# Altium schematic symbol library FPGA_Xilinx_Virtex7.SchLib: 34 symbols (part 6 of 26)
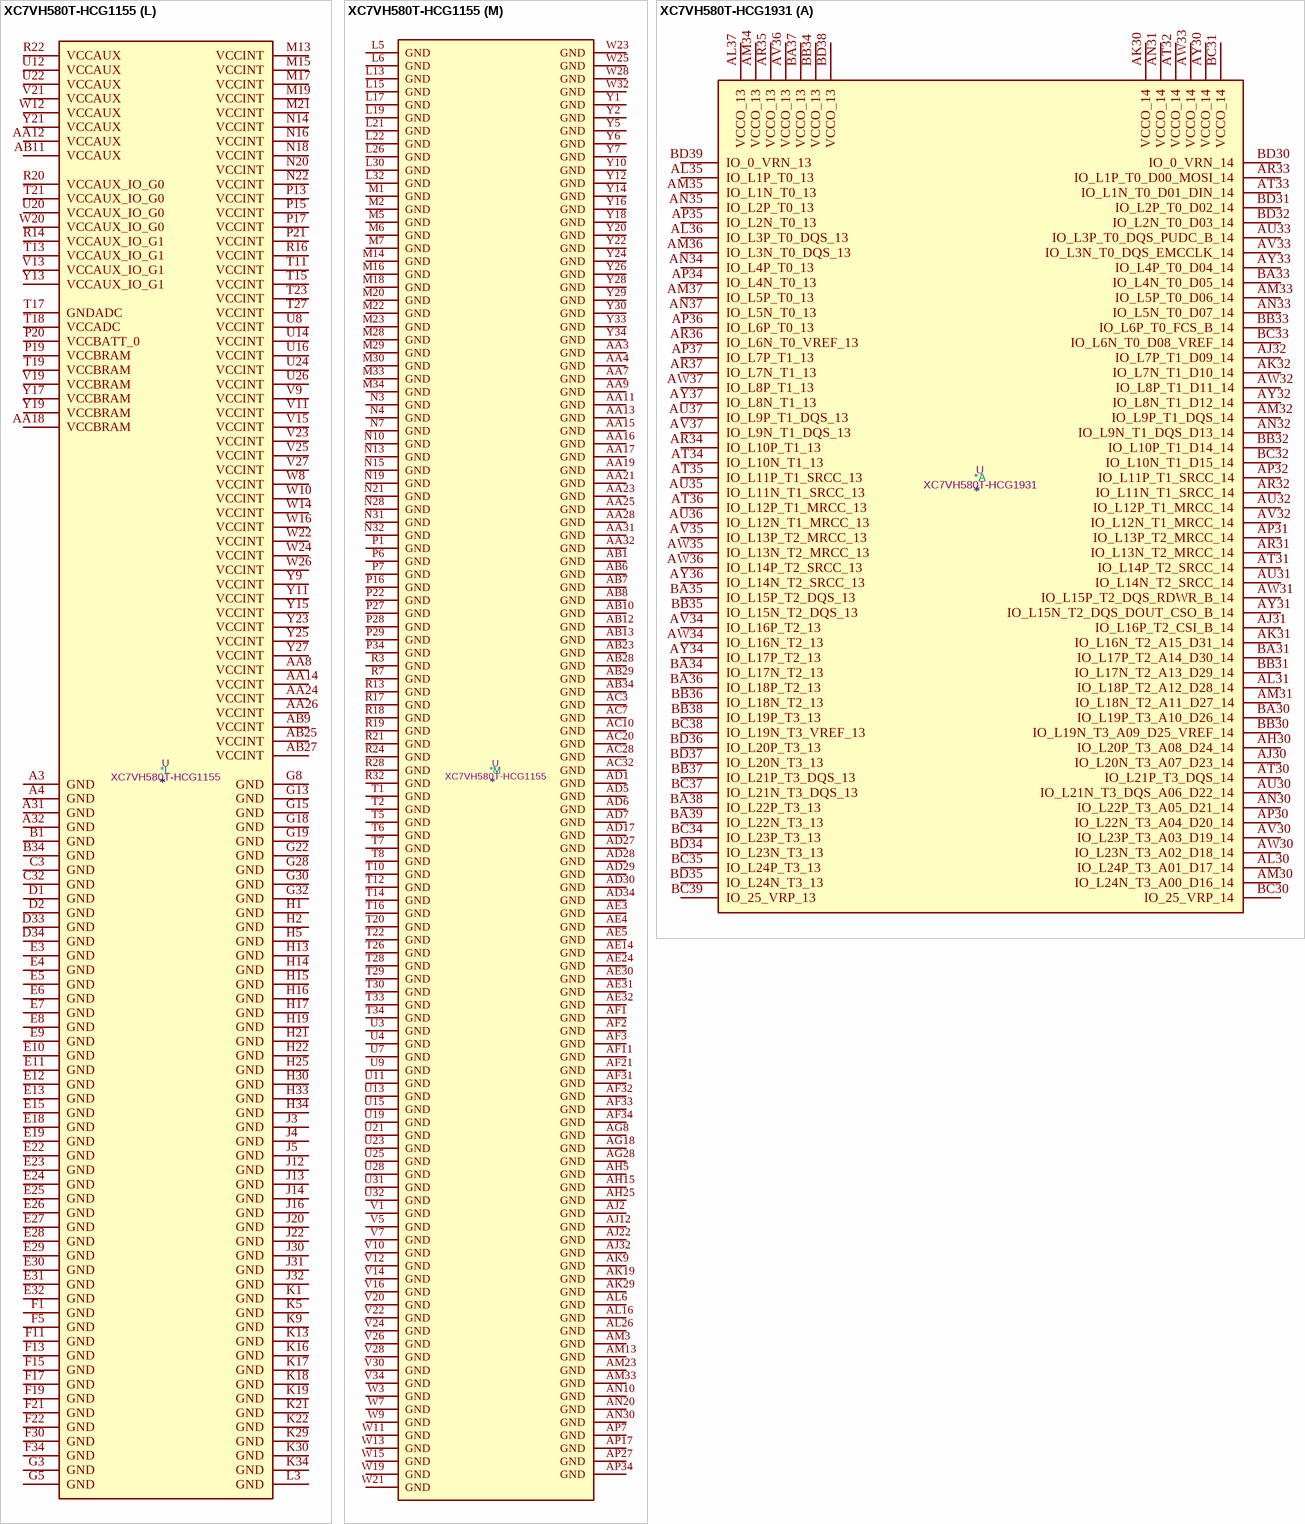
[diagram p177: symbols XC7VH580T-HCG1155 to XC7VH580T-HCG1931]

## XC7VH580T-HCG1155
designator *  value XC7VH580T-HCG1155  Reference: U
Virtex 7 HT 580 XC7VH580T-FLG1155; ki_keywords: FPGA; Description_: Virtex 7 HT 580 XC7VH580T-FLG1155
part A pins: AB24 IO_L5P_T0_13, AC23 IO_L1P_T0_13, AC24 IO_L5N_T0_13, AC25 VCCO_13, AC26 IO_L4P_T0_13, AC27 IO_L4N_T0_13, AD23 IO_L1N_T0_13, AD24 IO_L2P_T0_13, AD25 IO_L2N_T0_13, AD26 IO_L3P_T0_DQS_13, AE23 IO_L16P_T2_13, AE25 IO_L17P_T2_13, AE26 IO_L3N_T0_DQS_13, AE27 IO_L6P_T0_13, AE28 IO_L1P_T0_D00_MOSI_14, AE29 VCCO_14, AF23 IO_L16N_T2_13, AF24 IO_L15P_T2_DQS_13, AF25 IO_L17N_T2_13, AF26 VCCO_13, AF27 IO_L6N_T0_VREF_13, AF28 IO_L1N_T0_D01_DIN_14, AF29 IO_L3P_T0_DQS_PUDC_B_14, AF30 IO_L7P_T1_D09_14, AG23 VCCO_13, AG24 IO_L15N_T2_DQS_13, AG25 IO_L14P_T2_SRCC_13, AG26 IO_L14N_T2_SRCC_13, AG27 IO_L7P_T1_13, AG29 IO_L3N_T0_DQS_EMCCLK_14, AG30 IO_L7N_T1_D10_14, AG31 IO_L8P_T1_D11_14, AG32 IO_L8N_T1_D12_14, AG33 VCCO_14, AG34 IO_L10P_T1_D14_14, AH23 IO_L18P_T2_13, AH24 IO_L13P_T2_MRCC_13, AH26 IO_L9P_T1_DQS_13, AH27 IO_L7N_T1_13, AH28 IO_L4P_T0_D04_14, AH29 IO_L4N_T0_D05_14, AH30 VCCO_14, AH31 IO_L11P_T1_SRCC_14, AH32 IO_L9P_T1_DQS_14, AH33 IO_L9N_T1_DQS_D13_14, AH34 IO_L10N_T1_D15_14, AJ23 IO_L18N_T2_13, AJ24 IO_L13N_T2_MRCC_13, AJ25 IO_L11P_T1_SRCC_13, AJ26 IO_L9N_T1_DQS_13, AJ27 VCCO_13, AJ28 IO_L5P_T0_D06_14, AJ29 IO_L2P_T0_D02_14, AJ30 IO_L2N_T0_D03_14, AJ31 IO_L11N_T1_SRCC_14, AJ33 IO_L17P_T2_A14_D30_14, AJ34 IO_L17N_T2_A13_D29_14, AK23 IO_L20P_T3_13, AK24 VCCO_13, AK25 IO_L11N_T1_SRCC_13, AK26 IO_L8P_T1_13, AK27 IO_L8N_T1_13, AK28 IO_L5N_T0_D07_14, AK30 IO_L12P_T1_MRCC_14, AK31 IO_L12N_T1_MRCC_14, AK32 IO_L13P_T2_MRCC_14, AK33 IO_L14P_T2_SRCC_14, AK34 VCCO_14, AL22 IO_L24P_T3_13, AL23 IO_L20N_T3_13, AL24 IO_L12P_T1_MRCC_13, AL25 IO_L12N_T1_MRCC_13, AL27 IO_0_VRN_13, AL28 IO_L6P_T0_FCS_B_14, AL29 IO_L6N_T0_D08_VREF_14, AL30 IO_L21P_T3_DQS_14, AL31 VCCO_14, AL32 IO_L13N_T2_MRCC_14, AL33 IO_L14N_T2_SRCC_14, AL34 IO_L16P_T2_CSI_B_14, AM22 IO_L24N_T3_13, AM24 IO_L23P_T3_13, AM25 IO_L10P_T1_13, AM26 IO_L10N_T1_13, AM27 IO_L20P_T3_A08_D24_14, AM28 VCCO_14, AM29 IO_L19P_T3_A10_D26_14, AM30 IO_L21N_T3_DQS_A06_D22_14, AM31 IO_L23P_T3_A03_D19_14, AM32 IO_L15P_T2_DQS_RDWR_B_14, AM34 IO_L16N_T2_A15_D31_14, AN22 IO_25_VRP_13, AN23 IO_L21P_T3_DQS_13, AN24 IO_L23N_T3_13, AN25 VCCO_13, AN26 IO_L22P_T3_13, AN27 IO_L20N_T3_A07_D23_14, AN28 IO_L24P_T3_A01_D17_14, AN29 IO_L19N_T3_A09_D25_VREF_14, AN31 IO_L23N_T3_A02_D18_14, AN32 IO_L15N_T2_DQS_DOUT_CSO_B_14, AN33 IO_L18P_T2_A12_D28_14, AN34 IO_0_VRN_14, AP22 VCCO_13, AP23 IO_L21N_T3_DQS_13, AP24 IO_L19P_T3_13, AP25 IO_L19N_T3_VREF_13, AP26 IO_L22N_T3_13, AP28 IO_L24N_T3_A00_D16_14, AP29 IO_L22P_T3_A05_D21_14, AP30 IO_L22N_T3_A04_D20_14, AP31 IO_25_VRP_14, AP32 VCCO_14, AP33 IO_L18N_T2_A11_D27_14
part B pins: AA20 IO_L5P_T0_AD9P_15, AA22 VCCO_15, AB18 VCCO_15, AB19 IO_0_VRN_15, AB20 IO_L5N_T0_AD9N_15, AB21 IO_L20P_T3_A20_15, AB22 IO_L22P_T3_A17_15, AC18 IO_L1P_T0_AD0P_15, AC19 IO_L3P_T0_DQS_AD1P_15, AC21 IO_L20N_T3_A19_15, AC22 IO_L22N_T3_A16_15, AD18 IO_L1N_T0_AD0N_15, AD19 IO_L3N_T0_DQS_AD1N_15, AD20 IO_L16P_T2_A28_15, AD21 IO_L21P_T3_DQS_15, AD22 VCCO_15, AE18 IO_L4P_T0_15, AE19 VCCO_15, AE20 IO_L16N_T2_A27_15, AE21 IO_L21N_T3_DQS_A18_15, AE22 IO_L24P_T3_RS1_15, AF18 IO_L4N_T0_15, AF19 IO_L6P_T0_15, AF20 IO_L18P_T2_A24_15, AF22 IO_L24N_T3_RS0_15, AG19 IO_L6N_T0_VREF_15, AG20 IO_L18N_T2_A23_15, AG21 IO_25_VRP_15, AG22 IO_L23P_T3_FOE_B_15, AH18 IO_L2P_T0_AD8P_15, AH19 IO_L2N_T0_AD8N_15, AH20 VCCO_15, AH21 IO_L17P_T2_A26_15, AH22 IO_L23N_T3_FWE_B_15, AJ18 IO_L15P_T2_DQS_15, AJ19 IO_L15N_T2_DQS_ADV_B_15, AJ20 IO_L13P_T2_MRCC_15, AJ21 IO_L17N_T2_A25_15, AK18 IO_L7P_T1_AD2P_15, AK20 IO_L13N_T2_MRCC_15, AK21 IO_L19P_T3_A22_15, AK22 IO_L19N_T3_A21_VREF_15, AL18 IO_L7N_T1_AD2N_15, AL19 IO_L14P_T2_SRCC_15, AL20 IO_L14N_T2_SRCC_15, AL21 VCCO_15, AM18 VCCO_15, AM19 IO_L12P_T1_MRCC_15, AM20 IO_L12N_T1_MRCC_15, AM21 IO_L11P_T1_SRCC_15, AN18 IO_L10P_T1_AD11P_15, AN19 IO_L9P_T1_DQS_AD3P_15, AN21 IO_L11N_T1_SRCC_15, AP18 IO_L10N_T1_AD11N_15, AP19 IO_L9N_T1_DQS_AD3N_15, AP20 IO_L8P_T1_AD10P_15, AP21 IO_L8N_T1_AD10N_15, F23 IO_25_VRP_16, F24 IO_L8P_T1_16, F25 IO_L8N_T1_16, F26 VCCO_16, F27 IO_L19P_T3_16, F28 IO_L19N_T3_VREF_16, F29 VCCO_16, G23 VCCO_16, G24 IO_L9N_T1_DQS_16, G25 IO_L10P_T1_16, G26 IO_L10N_T1_16, G27 IO_L22N_T3_16, G29 IO_L23N_T3_16, H23 IO_L7P_T1_16, H24 IO_L9P_T1_DQS_16, H26 IO_L12N_T1_MRCC_16, H27 IO_L22P_T3_16, H28 IO_L21N_T3_DQS_16, H29 IO_L23P_T3_16, J23 IO_L6N_T0_VREF_16, J24 IO_L7N_T1_16, J25 IO_L11N_T1_SRCC_16, J26 IO_L12P_T1_MRCC_16, J27 VCCO_16, J28 IO_L21P_T3_DQS_16, J29 IO_L20N_T3_16, K23 IO_L6P_T0_16, K24 VCCO_16, K25 IO_L11P_T1_SRCC_16, K26 IO_L13P_T2_MRCC_16, K27 IO_L13N_T2_MRCC_16, K28 IO_L20P_T3_16, L23 IO_L2P_T0_16, L24 IO_L2N_T0_16, L25 IO_L14N_T2_SRCC_16, L27 IO_L17N_T2_16, L28 IO_L24P_T3_16, L29 IO_L24N_T3_16, M24 IO_0_VRN_16, M25 IO_L14P_T2_SRCC_16, M26 IO_L17P_T2_16, M27 IO_L18N_T2_16, N23 IO_L4N_T0_16, N24 IO_L3N_T0_DQS_16, N25 VCCO_16, N26 IO_L15N_T2_DQS_16, N27 IO_L18P_T2_16, P23 IO_L4P_T0_16, P24 IO_L3P_T0_DQS_16, P25 IO_L5N_T0_16, P26 IO_L15P_T2_DQS_16, R23 IO_L1P_T0_16, R25 IO_L5P_T0_16, R26 IO_L16P_T2_16, R27 IO_L16N_T2_16, T24 IO_L1N_T0_16, T25 VCCO_16
part C pins: AC8 IO_L4P_T0_33, AC9 IO_L2P_T0_33, AC11 IO_L1N_T0_33, AC12 IO_L1P_T0_33, AD8 IO_L4N_T0_33, AD9 IO_L2N_T0_33, AD10 IO_L3N_T0_DQS_33, AD11 IO_L3P_T0_DQS_33, AD12 VCCO_33, AE6 IO_L1P_T0_34, AE7 IO_L5P_T0_34, AE8 IO_L6P_T0_33, AE9 VCCO_33, AE10 IO_L5N_T0_33, AE11 IO_L5P_T0_33, AE12 IO_L16P_T2_33, AF4 IO_L7P_T1_34, AF5 IO_L1N_T0_34, AF6 VCCO_34, AF7 IO_L5N_T0_34, AF8 IO_L6N_T0_VREF_33, AF9 IO_L17P_T2_33, AF10 IO_L15P_T2_DQS_33, AF12 IO_L16N_T2_33, AG1 IO_L10P_T1_34, AG2 IO_L9P_T1_DQS_34, AG3 VCCO_34, AG4 IO_L7N_T1_34, AG5 IO_L2N_T0_34, AG6 IO_L2P_T0_34, AG7 IO_L4P_T0_34, AG9 IO_L17N_T2_33, AG10 IO_L15N_T2_DQS_33, AG11 IO_L13P_T2_MRCC_33, AG12 IO_L18P_T2_33, AH1 IO_L10N_T1_34, AH2 IO_L9N_T1_DQS_34, AH3 IO_L8N_T1_34, AH4 IO_L8P_T1_34, AH6 IO_L3P_T0_DQS_34, AH7 IO_L4N_T0_34, AH8 IO_L7N_T1_33, AH9 IO_L7P_T1_33, AH10 VCCO_33, AH11 IO_L13N_T2_MRCC_33, AH12 IO_L18N_T2_33, AJ1 IO_L17P_T2_34, AJ3 IO_L11N_T1_SRCC_34, AJ4 IO_L11P_T1_SRCC_34, AJ5 IO_L12P_T1_MRCC_34, AJ6 IO_L3N_T0_DQS_34, AJ7 VCCO_34, AJ8 IO_L9N_T1_DQS_33, AJ9 IO_L9P_T1_DQS_33, AJ10 IO_L14N_T2_SRCC_33, AJ11 IO_L14P_T2_SRCC_33, AK1 IO_L17N_T2_34, AK2 IO_L14P_T2_SRCC_34, AK3 IO_L13P_T2_MRCC_34, AK4 VCCO_34, AK5 IO_L12N_T1_MRCC_34, AK6 IO_L6N_T0_VREF_34, AK7 IO_L6P_T0_34, AK8 IO_L8P_T1_33, AK10 IO_L11N_T1_SRCC_33, AK11 IO_L11P_T1_SRCC_33, AK12 IO_L20P_T3_33, AL1 VCCO_34, AL2 IO_L14N_T2_SRCC_34, AL3 IO_L13N_T2_MRCC_34, AL4 IO_L23N_T3_34, AL5 IO_L23P_T3_34, AL7 IO_L20P_T3_34, AL8 IO_L8N_T1_33, AL9 IO_L12N_T1_MRCC_33, AL10 IO_L12P_T1_MRCC_33, AL11 VCCO_33, AL12 IO_L20N_T3_33, AM1 IO_L16P_T2_34, AM2 IO_L15P_T2_DQS_34, AM4 IO_L21P_T3_DQS_34, AM5 IO_L19N_T3_VREF_34, AM6 IO_L19P_T3_34, AM7 IO_L20N_T3_34, AM8 VCCO_33, AM9 IO_L10N_T1_33, AM10 IO_L10P_T1_33, AM11 IO_L24N_T3_33, AM12 IO_L24P_T3_33, AN1 IO_L16N_T2_34, AN2 IO_L15N_T2_DQS_34, AN3 IO_L18P_T2_34, AN4 IO_L21N_T3_DQS_34, AN5 VCCO_34, AN6 IO_L24N_T3_34, AN7 IO_L24P_T3_34, AN8 IO_L22N_T3_33, AN9 IO_L22P_T3_33, AN11 IO_L21N_T3_DQS_33, AN12 IO_L21P_T3_DQS_33, AN13 IO_L23P_T3_33, AP1 IO_0_VRN_34, AP2 VCCO_34, AP3 IO_L18N_T2_34, AP4 IO_25_VRP_34, AP5 IO_L22N_T3_34, AP6 IO_L22P_T3_34, AP8 IO_0_VRN_33, AP9 IO_L19N_T3_VREF_33, AP10 IO_L19P_T3_33, AP11 IO_25_VRP_33, AP12 VCCO_33, AP13 IO_L23N_T3_33
part D pins: AB14 IO_L20P_T3_35, AB15 IO_0_VRN_35, AB16 IO_L4P_T0_35, AB17 IO_L1P_T0_AD4P_35, AC13 IO_L22P_T3_35, AC14 IO_L20N_T3_35, AC15 VCCO_35, AC16 IO_L4N_T0_35, AC17 IO_L1N_T0_AD4N_35, AD13 IO_L22N_T3_35, AD14 IO_25_VRP_35, AD15 IO_L16P_T2_35, AD16 IO_L3P_T0_DQS_AD5P_35, AE13 IO_L24P_T3_35, AE15 IO_L16N_T2_35, AE16 IO_L3N_T0_DQS_AD5N_35, AE17 IO_L5P_T0_AD13P_35, AF13 IO_L24N_T3_35, AF14 IO_L21P_T3_DQS_35, AF15 IO_L18P_T2_35, AF16 VCCO_35, AF17 IO_L5N_T0_AD13N_35, AG13 VCCO_35, AG14 IO_L21N_T3_DQS_35, AG15 IO_L18N_T2_35, AG16 IO_L6P_T0_35, AG17 IO_L2P_T0_AD12P_35, AH13 IO_L23P_T3_35, AH14 IO_L19P_T3_35, AH16 IO_L6N_T0_VREF_35, AH17 IO_L2N_T0_AD12N_35, AJ13 IO_L23N_T3_35, AJ14 IO_L19N_T3_VREF_35, AJ15 IO_L13P_T2_MRCC_35, AJ16 IO_L15P_T2_DQS_35, AJ17 VCCO_35, AK13 IO_L17P_T2_35, AK14 VCCO_35, AK15 IO_L13N_T2_MRCC_35, AK16 IO_L15N_T2_DQS_35, AK17 IO_L7P_T1_AD6P_35, AL13 IO_L17N_T2_35, AL14 IO_L14N_T2_SRCC_35, AL15 IO_L14P_T2_SRCC_35, AL17 IO_L7N_T1_AD6N_35, AM14 IO_L11P_T1_SRCC_35, AM15 IO_L12N_T1_MRCC_35, AM16 IO_L12P_T1_MRCC_35, AM17 IO_L9P_T1_DQS_AD7P_35, AN14 IO_L11N_T1_SRCC_35, AN15 VCCO_35, AN16 IO_L8P_T1_AD14P_35, AN17 IO_L9N_T1_DQS_AD7N_35, AP14 IO_L10N_T1_AD15N_35, AP15 IO_L10P_T1_AD15P_35, AP16 IO_L8N_T1_AD14N_35, F6 VCCO_36, F7 IO_L22N_T3_36, F8 IO_L22P_T3_36, F9 IO_L10N_T1_36, F10 IO_25_VRP_36, F12 IO_L8N_T1_36, G6 IO_L23N_T3_36, G7 IO_L21N_T3_DQS_36, G9 IO_L10P_T1_36, G10 IO_L9N_T1_DQS_36, G11 IO_L9P_T1_DQS_36, G12 IO_L8P_T1_36, H6 IO_L23P_T3_36, H7 IO_L21P_T3_DQS_36, H8 IO_L19N_T3_VREF_36, H9 IO_L12N_T1_MRCC_36, H10 VCCO_36, H11 IO_L7N_T1_36, H12 IO_L7P_T1_36, J6 IO_L20N_T3_36, J7 VCCO_36, J8 IO_L19P_T3_36, J9 IO_L12P_T1_MRCC_36, J10 IO_L11N_T1_SRCC_36, J11 IO_L6N_T0_VREF_36, K6 IO_L20P_T3_36, K7 IO_L24N_T3_36, K8 IO_L17N_T2_36, K10 IO_L11P_T1_SRCC_36, K11 IO_L6P_T0_36, K12 IO_L2N_T0_36, L7 IO_L24P_T3_36, L8 IO_L17P_T2_36, L9 IO_L13N_T2_MRCC_36, L10 IO_L14N_T2_SRCC_36, L11 VCCO_36, L12 IO_L2P_T0_36, M8 VCCO_36, M9 IO_L13P_T2_MRCC_36, M10 IO_L14P_T2_SRCC_36, M11 IO_L4N_T0_36, M12 IO_L4P_T0_36, N8 IO_L18N_T2_36, N9 IO_L15N_T2_DQS_36, N11 IO_L3N_T0_DQS_36, N12 IO_0_VRN_36, P8 IO_L18P_T2_36, P9 IO_L15P_T2_DQS_36, P10 IO_L5N_T0_36, P11 IO_L3P_T0_DQS_36, P12 VCCO_36, R8 IO_L16N_T2_36, R9 VCCO_36, R10 IO_L5P_T0_36, R11 IO_L1N_T0_36, R12 IO_L1P_T0_36, T9 IO_L16P_T2_36
part E pins: AA1 MGTHTXN1_113, AA2 MGTHTXP1_113, AA5 MGTREFCLK1N_113, AA6 MGTREFCLK1P_113, AB3 MGTHRXN2_113, AB4 MGTHRXP2_113, AC1 MGTHTXN0_113, AC2 MGTHTXP0_113, AC5 MGTREFCLK0N_113, AC6 MGTREFCLK0P_113, AD3 MGTHRXN1_113, AD4 MGTHRXP1_113, J1 MGTHTXN3_114, J2 MGTHTXP3_114, K3 MGTHRXN2_114, K4 MGTHRXP2_114, L1 MGTHTXN2_114, L2 MGTHTXP2_114, M3 MGTHRXN3_114, M4 MGTHRXP3_114, N1 MGTHTXN1_114, N2 MGTHTXP1_114, P3 MGTHRXN1_114, P4 MGTHRXP1_114, R1 MGTHTXN0_114, R2 MGTHTXP0_114, T3 MGTHRXN0_114, T4 MGTHRXP0_114, U1 MGTHTXN3_113, U2 MGTHTXP3_113, U5 MGTREFCLK1N_114, U6 MGTREFCLK1P_114, V3 MGTHRXN3_113, V4 MGTHRXP3_113, W1 MGTHTXN2_113, W2 MGTHTXP2_113, W5 MGTREFCLK0N_114, W6 MGTREFCLK0P_114, Y3 MGTHRXN0_113, Y4 MGTHRXP0_113
part F pins: A1 MGTHTXN3_115, A2 MGTHTXP3_115, AA29 MGTREFCLK1P_213, AA30 MGTREFCLK1N_213, AA33 MGTHTXP1_213, AA34 MGTHTXN1_213, AB31 MGTHRXP2_213, AB32 MGTHRXN2_213, AC29 MGTREFCLK0P_213, AC30 MGTREFCLK0N_213, AC33 MGTHTXP0_213, AC34 MGTHTXN0_213, AD31 MGTHRXP1_213, AD32 MGTHRXN1_213, B3 MGTHRXN3_115, B4 MGTHRXP3_115, C1 MGTHTXN2_115, C2 MGTHTXP2_115, D3 MGTHRXN2_115, D4 MGTHRXP2_115, E1 MGTHTXN1_115, E2 MGTHTXP1_115, F3 MGTHRXN1_115, F4 MGTHRXP1_115, G1 MGTHTXN0_115, G2 MGTHTXP0_115, H3 MGTHRXN0_115, H4 MGTHRXP0_115, N5 MGTREFCLK0N_115, N6 MGTREFCLK0P_115, R5 MGTREFCLK1N_115, R6 MGTREFCLK1P_115, U33 MGTHTXP3_213, U34 MGTHTXN3_213, V31 MGTHRXP3_213, V32 MGTHRXN3_213, W33 MGTHTXP2_213, W34 MGTHTXN2_213, Y31 MGTHRXP0_213, Y32 MGTHRXN0_213
part G pins: A33 MGTHTXP3_215, A34 MGTHTXN3_215, B31 MGTHRXP3_215, B32 MGTHRXN3_215, C33 MGTHTXP2_215, C34 MGTHTXN2_215, D31 MGTHRXP2_215, D32 MGTHRXN2_215, E33 MGTHTXP1_215, E34 MGTHTXN1_215, F31 MGTHRXP1_215, F32 MGTHRXN1_215, G33 MGTHTXP0_215, G34 MGTHTXN0_215, H31 MGTHRXP0_215, H32 MGTHRXN0_215, J33 MGTHTXP3_214, J34 MGTHTXN3_214, K31 MGTHRXP2_214, K32 MGTHRXN2_214, L33 MGTHTXP2_214, L34 MGTHTXN2_214, M31 MGTHRXP3_214, M32 MGTHRXN3_214, N29 MGTREFCLK0P_215, N30 MGTREFCLK0N_215, N33 MGTHTXP1_214, N34 MGTHTXN1_214, P31 MGTHRXP1_214, P32 MGTHRXN1_214, R29 MGTREFCLK1P_215, R30 MGTREFCLK1N_215, R33 MGTHTXP0_214, R34 MGTHTXN0_214, T31 MGTHRXP0_214, T32 MGTHRXN0_214, U29 MGTREFCLK1P_214, U30 MGTREFCLK1N_214, W29 MGTREFCLK0P_214, W30 MGTREFCLK0N_214
part H pins: AB2 MGTAVTT_G10, AB5 MGTAVCC_G10, AB30 MGTAVCC_G20, AB33 MGTAVTT_G20, AC4 MGTAVCC_G10, AC31 MGTAVCC_G20, AD2 MGTAVTT_G10, AD33 MGTAVTT_G20, AE1 MGTRREF_115, AE2 MGTAVTTRCAL_115, AE33 MGTAVTTRCAL_215, AE34 MGTRREF_215, B2 MGTAVTT_G10, B33 MGTAVTT_G20, C4 MGTAVCC_G10, C31 MGTAVCC_G20, F2 MGTAVTT_G10, F33 MGTAVTT_G20, G4 MGTAVCC_G10, G31 MGTAVCC_G20, K2 MGTAVTT_G10, K33 MGTAVTT_G20, L4 MGTAVCC_G10, L31 MGTAVCC_G20, P2 MGTAVTT_G10, P5 MGTAVCC_G10, P30 MGTAVCC_G20, P33 MGTAVTT_G20, R4 MGTAVCC_G10, R31 MGTAVCC_G20, V2 MGTAVTT_G10, V6 MGTVCCAUX_G10, V29 MGTVCCAUX_G20, V33 MGTAVTT_G20, W4 MGTAVCC_G10, W31 MGTAVCC_G20
part I pins: A6 MGTZRXN7_300, A7 MGTZRXP7_300, A9 MGTZRXN5_300, A10 MGTZRXP5_300, A12 MGTZTXN7_300, A13 MGTZTXP7_300, A15 MGTZTXN5_300, A16 MGTZTXP5_300, A18 MGTZRXN3_300, A19 MGTZRXP3_300, A21 MGTZRXN1_300, A22 MGTZRXP1_300, A24 MGTZTXN3_300, A25 MGTZTXP3_300, A27 MGTZTXN1_300, A28 MGTZTXP1_300, C7 MGTZRXN6_300, C8 MGTZRXP6_300, C10 MGTZRXN4_300, C11 MGTZRXP4_300, C13 MGTZTXN6_300, C14 MGTZTXP6_300, C16 MGTZTXN4_300, C17 MGTZTXP4_300, C19 MGTZRXN2_300, C20 MGTZRXP2_300, C22 MGTZRXN0_300, C23 MGTZRXP0_300, C25 MGTZTXN2_300, C26 MGTZTXP2_300, C28 MGTZTXN0_300, C29 MGTZTXP0_300, E16 MGTZREFCLK0N_300, E17 MGTZREFCLK0P_300, E20 MGTZREFCLK1N_300, E21 MGTZREFCLK1P_300, G16 MGTZ_THERM_OUT_300, G17 MGTZ_THERM_IN_300, H18 MGTZ_OBS_CLK_N_300, J18 MGTZ_OBS_CLK_P_300
part J pins: A5 MGTZAGND_300, A8 MGTZAGND_300, A11 MGTZAGND_300, A14 MGTZAGND_300, A17 MGTZAGND_300, A20 MGTZAGND_300, A23 MGTZAGND_300, A26 MGTZAGND_300, A29 MGTZAGND_300, A30 MGTZAGND_300, B5 MGTZAGND_300, B6 MGTZAVCC_300, B7 MGTZAGND_300, B8 MGTZAVCC_300, B9 MGTZAGND_300, B10 MGTZAVCC_300, B11 MGTZAGND_300, B12 MGTZAVCC_300, B13 MGTZAGND_300, B14 MGTZAVCC_300, B15 MGTZAGND_300, B16 MGTZAVCC_300, B17 MGTZAGND_300, B18 MGTZAVCC_300, B19 MGTZAGND_300, B20 MGTZAVCC_300, B21 MGTZAGND_300, B22 MGTZAVCC_300, B23 MGTZAGND_300, B24 MGTZAVCC_300, B25 MGTZAGND_300, B26 MGTZAVCC_300, B27 MGTZAGND_300, B28 MGTZAVCC_300, B29 MGTZAGND_300, B30 MGTZAGND_300, C5 MGTZAGND_300, C6 MGTZAGND_300, C9 MGTZAGND_300, C12 MGTZAGND_300, C15 MGTZAGND_300, C18 MGTZAGND_300, C21 MGTZAGND_300, C24 MGTZAGND_300, C27 MGTZAGND_300, C30 MGTZAGND_300, D5 MGTZAGND_300, D6 MGTZAGND_300, D7 MGTZAGND_300, D8 MGTZAGND_300, D9 MGTZAGND_300, D10 MGTZAGND_300, D11 MGTZAGND_300, D12 MGTZAGND_300, D13 MGTZAGND_300, D14 MGTZAGND_300, D15 MGTZAGND_300, D16 MGTZAGND_300, D17 MGTZAGND_300, D18 MGTZAGND_300, D19 MGTZAGND_300, D20 MGTZAGND_300, D21 MGTZAGND_300, D22 MGTZAGND_300, D23 MGTZAGND_300, D24 MGTZAGND_300, D25 MGTZAGND_300, D26 MGTZAGND_300, D27 MGTZAGND_300, D28 MGTZAGND_300, D29 MGTZAGND_300, D30 MGTZAGND_300, E14 MGTZ_SENSE_AVCC_300, F14 MGTZ_SENSE_AGND_300, F16 MGTZVCCH_300, F18 MGTZVCCH_300, F20 MGTZVCCH_300, G14 MGTZVCCH_300, G20 MGTZ_SENSE_GND_300, G21 MGTZ_SENSE_VCCH_300, H20 MGTZ_SENSE_VCC_300, J15 MGTZVCCH_300, J17 MGTZVCCH_300, J19 MGTZVCCH_300, J21 MGTZVCCH_300, K14 MGTZ_SENSE_GNDL_300, K15 MGTZ_SENSE_VCCL_300, L14 MGTZVCCL_300, L16 MGTZVCCL_300, L18 MGTZVCCL_300, L20 MGTZVCCL_300
part K pins: AA10 VCCO_0, AA27 M2_0, AB26 M0_0, K20 TDO_0, N17 TCK_0, P14 TDI_0, P18 CCLK_0, R15 TMS_0, U10 VCCO_0, U17 VREFN_0, U18 VP_0, U27 DONE_0, V8 INIT_B_0, V17 VN_0, V18 VREFP_0, W17 DXN_0, W18 DXP_0, W27 PROGRAM_B_0, Y8 M1_0
part L pins: A3 GND, A4 GND, A31 GND, A32 GND, AA8 VCCINT, AA12 VCCAUX, AA14 VCCINT, AA18 VCCBRAM, AA24 VCCINT, AA26 VCCINT, AB9 VCCINT, AB11 VCCAUX, AB25 VCCINT, AB27 VCCINT, B1 GND, B34 GND, C3 GND, C32 GND, D1 GND, D2 GND, D33 GND, D34 GND, E3 GND, E4 GND, E5 GND, E6 GND, E7 GND, E8 GND, E9 GND, E10 GND, E11 GND, E12 GND, E13 GND, E15 GND, E18 GND, E19 GND, E22 GND, E23 GND, E24 GND, E25 GND, E26 GND, E27 GND, E28 GND, E29 GND, E30 GND, E31 GND, E32 GND, F1 GND, F5 GND, F11 GND, F13 GND, F15 GND, F17 GND, F19 GND, F21 GND, F22 GND, F30 GND, F34 GND, G3 GND, G5 GND, G8 GND, G13 GND, G15 GND, G18 GND, G19 GND, G22 GND, G28 GND, G30 GND, G32 GND, H1 GND, H2 GND, H5 GND, H13 GND, H14 GND, H15 GND, H16 GND, H17 GND, H19 GND, H21 GND, H22 GND, H25 GND, H30 GND, H33 GND, H34 GND, J3 GND, J4 GND, J5 GND, J12 GND, J13 GND, J14 GND, J16 GND, J20 GND, J22 GND, J30 GND, J31 GND, J32 GND, K1 GND, K5 GND, K9 GND, K13 GND, K16 GND, K17 GND, K18 GND, K19 GND, K21 GND, K22 GND, K29 GND, K30 GND, K34 GND, L3 GND, M13 VCCINT, M15 VCCINT, M17 VCCINT, M19 VCCINT, M21 VCCINT, N14 VCCINT, N16 VCCINT, N18 VCCINT, N20 VCCINT, N22 VCCINT, P13 VCCINT, P15 VCCINT, P17 VCCINT, P19 VCCBRAM, P20 VCCBATT_0, P21 VCCINT, R14 VCCAUX_IO_G1, R16 VCCINT, R20 VCCAUX_IO_G0, R22 VCCAUX, T11 VCCINT, T13 VCCAUX_IO_G1, T15 VCCINT, T17 GNDADC, T18 VCCADC, T19 VCCBRAM, T21 VCCAUX_IO_G0, T23 VCCINT, T27 VCCINT, U8 VCCINT, U12 VCCAUX, U14 VCCINT, U16 VCCINT, U20 VCCAUX_IO_G0, U22 VCCAUX, U24 VCCINT, U26 VCCINT, V9 VCCINT, V11 VCCINT, V13 VCCAUX_IO_G1, V15 VCCINT, V19 VCCBRAM, V21 VCCAUX, V23 VCCINT, V25 VCCINT, V27 VCCINT, W8 VCCINT, W10 VCCINT, W12 VCCAUX, W14 VCCINT, W16 VCCINT, W20 VCCAUX_IO_G0, W22 VCCINT, W24 VCCINT, W26 VCCINT, Y9 VCCINT, Y11 VCCINT, Y13 VCCAUX_IO_G1, Y15 VCCINT, Y17 VCCBRAM, Y19 VCCBRAM, Y21 VCCAUX, Y23 VCCINT, Y25 VCCINT, Y27 VCCINT
part M pins: AA3 GND, AA4 GND, AA7 GND, AA9 GND, AA11 GND, AA13 GND, AA15 GND, AA16 GND, AA17 GND, AA19 GND, AA21 GND, AA23 GND, AA25 GND, AA28 GND, AA31 GND, AA32 GND, AB1 GND, AB6 GND, AB7 GND, AB8 GND, AB10 GND, AB12 GND, AB13 GND, AB23 GND, AB28 GND, AB29 GND, AB34 GND, AC3 GND, AC7 GND, AC10 GND, AC20 GND, AC28 GND, AC32 GND, AD1 GND, AD5 GND, AD6 GND, AD7 GND, AD17 GND, AD27 GND, AD28 GND, AD29 GND, AD30 GND, AD34 GND, AE3 GND, AE4 GND, AE5 GND, AE14 GND, AE24 GND, AE30 GND, AE31 GND, AE32 GND, AF1 GND, AF2 GND, AF3 GND, AF11 GND, AF21 GND, AF31 GND, AF32 GND, AF33 GND, AF34 GND, AG8 GND, AG18 GND, AG28 GND, AH5 GND, AH15 GND, AH25 GND, AJ2 GND, AJ12 GND, AJ22 GND, AJ32 GND, AK9 GND, AK19 GND, AK29 GND, AL6 GND, AL16 GND, AL26 GND, AM3 GND, AM13 GND, AM23 GND, AM33 GND, AN10 GND, AN20 GND, AN30 GND, AP7 GND, AP17 GND, AP27 GND, AP34 GND, L5 GND, L6 GND, L13 GND, L15 GND, L17 GND, L19 GND, L21 GND, L22 GND, L26 GND, L30 GND, L32 GND, M1 GND, M2 GND, M5 GND, M6 GND, M7 GND, M14 GND, M16 GND, M18 GND, M20 GND, M22 GND, M23 GND, M28 GND, M29 GND, M30 GND, M33 GND, M34 GND, N3 GND, N4 GND, N7 GND, N10 GND, N13 GND, N15 GND, N19 GND, N21 GND, N28 GND, N31 GND, N32 GND, P1 GND, P6 GND, P7 GND, P16 GND, P22 GND, P27 GND, P28 GND, P29 GND, P34 GND, R3 GND, R7 GND, R13 GND, R17 GND, R18 GND, R19 GND, R21 GND, R24 GND, R28 GND, R32 GND, T1 GND, T2 GND, T5 GND, T6 GND, T7 GND, T8 GND, T10 GND, T12 GND, T14 GND, T16 GND, T20 GND, T22 GND, T26 GND, T28 GND, T29 GND, T30 GND, T33 GND, T34 GND, U3 GND, U4 GND, U7 GND, U9 GND, U11 GND, U13 GND, U15 GND, U19 GND, U21 GND, U23 GND, U25 GND, U28 GND, U31 GND, U32 GND, V1 GND, V5 GND, V7 GND, V10 GND, V12 GND, V14 GND, V16 GND, V20 GND, V22 GND, V24 GND, V26 GND, V28 GND, V30 GND, V34 GND, W3 GND, W7 GND, W9 GND, W11 GND, W13 GND, W15 GND, W19 GND, W21 GND, W23 GND, W25 GND, W28 GND, W32 GND, Y1 GND, Y2 GND, Y5 GND, Y6 GND, Y7 GND, Y10 GND, Y12 GND, Y14 GND, Y16 GND, Y18 GND, Y20 GND, Y22 GND, Y24 GND, Y26 GND, Y28 GND, Y29 GND, Y30 GND, Y33 GND, Y34 GND

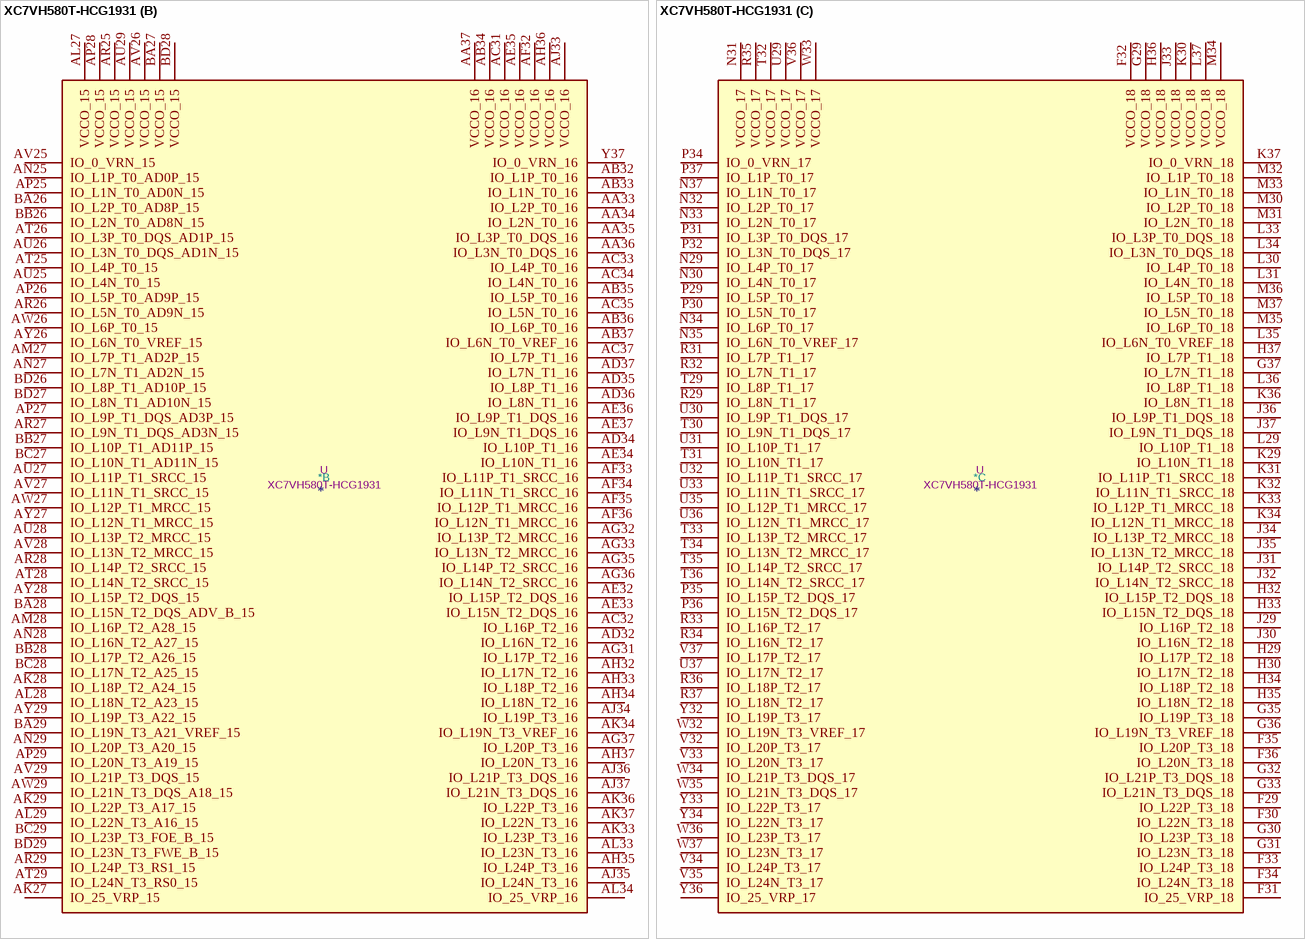
[diagram p37: symbol XC7VH580T-HCG1931]

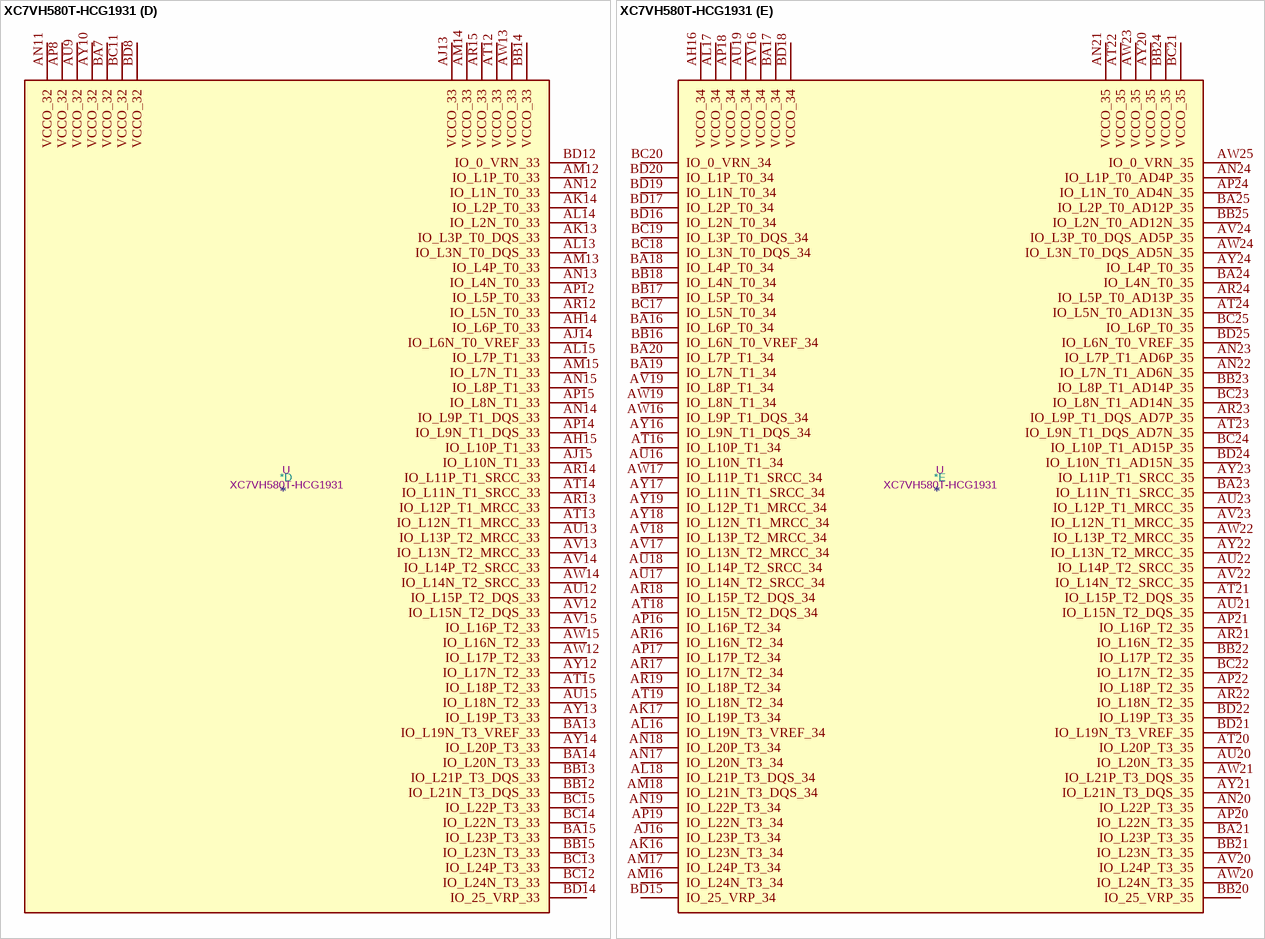
[diagram p38: symbol XC7VH580T-HCG1931]

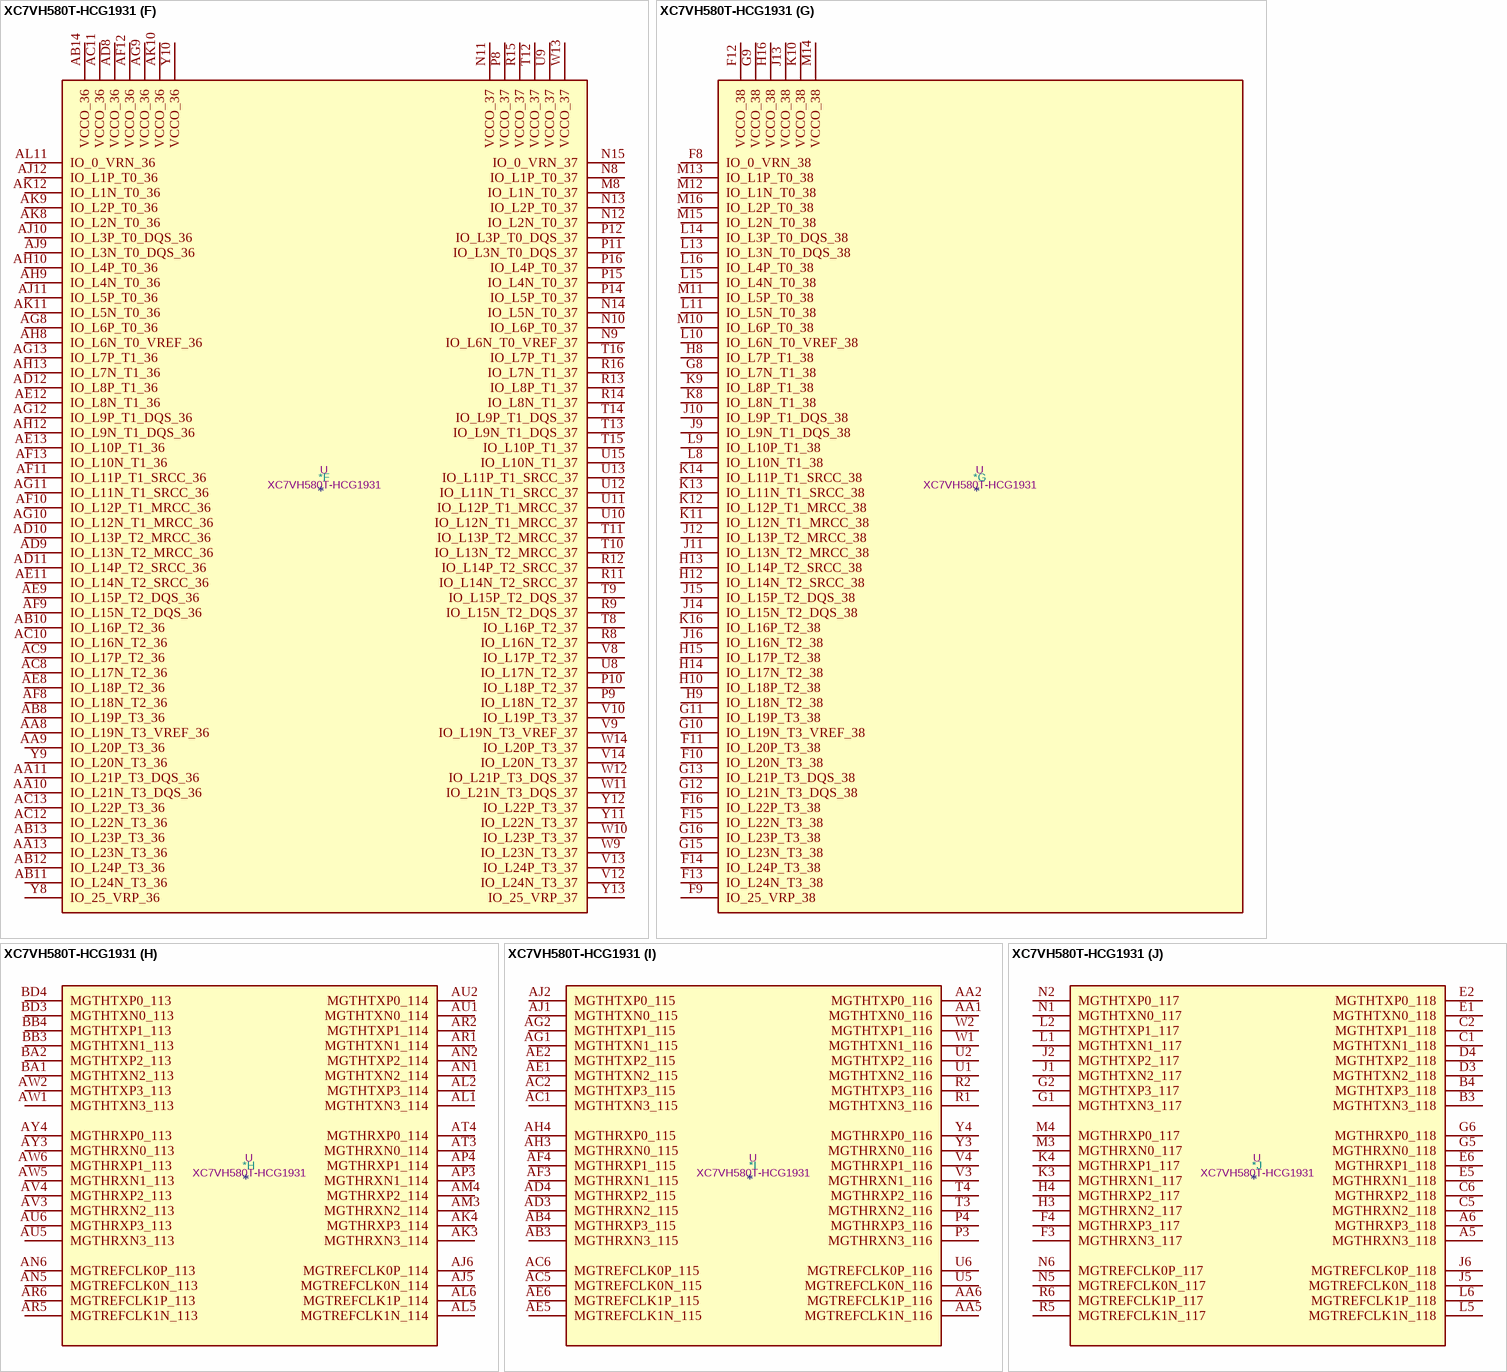
[diagram p39: symbol XC7VH580T-HCG1931]

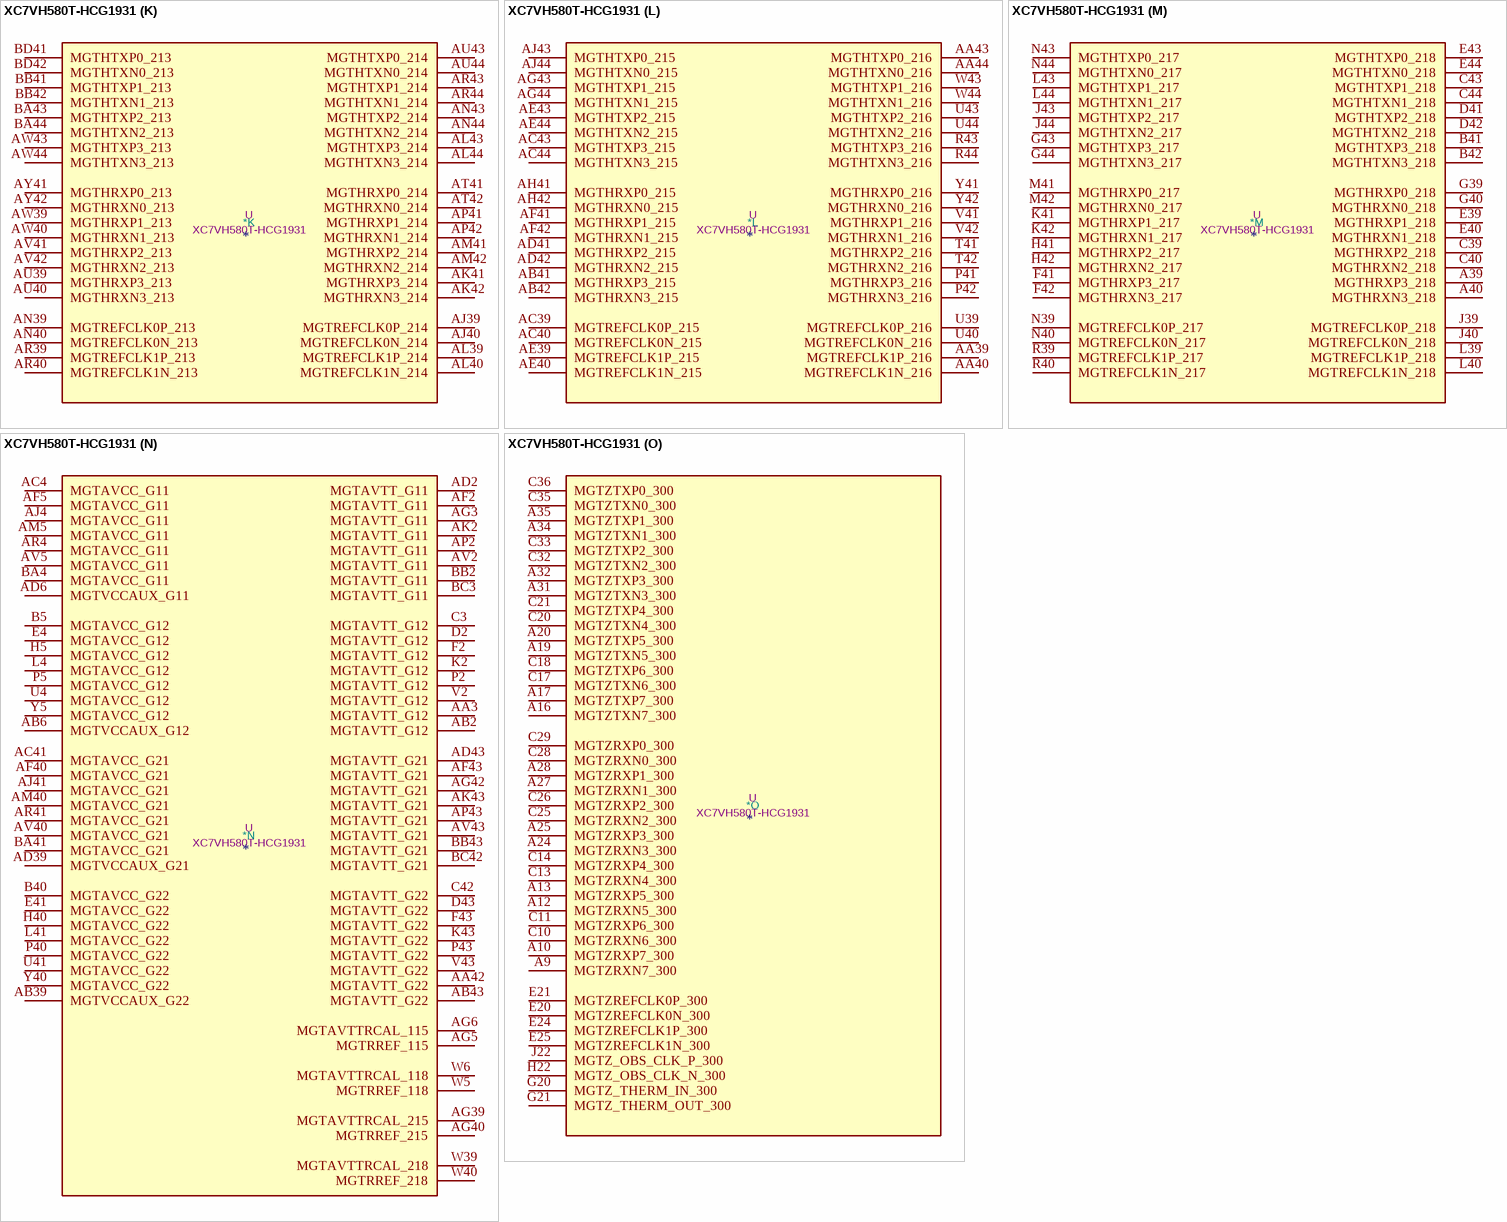
[diagram p40: symbol XC7VH580T-HCG1931]

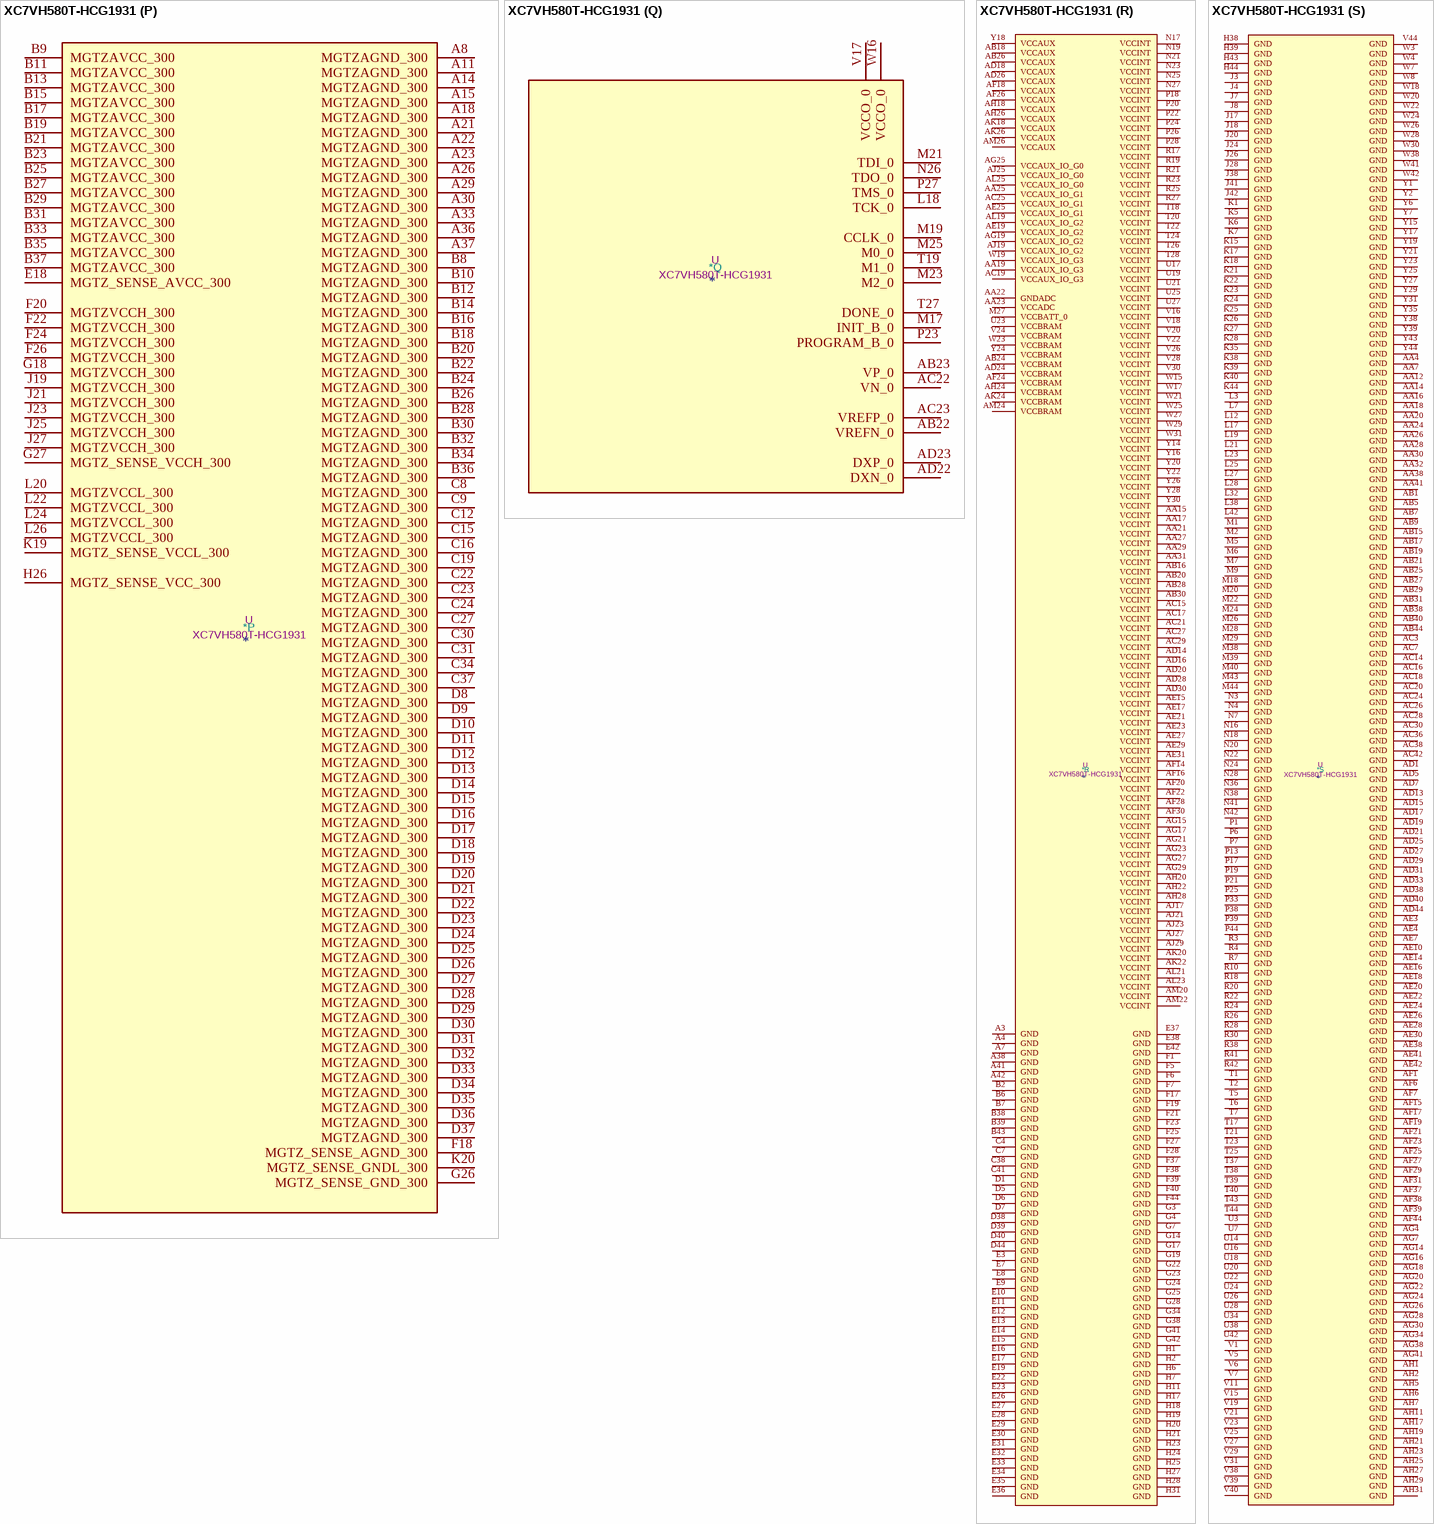
[diagram p41: symbol XC7VH580T-HCG1931]

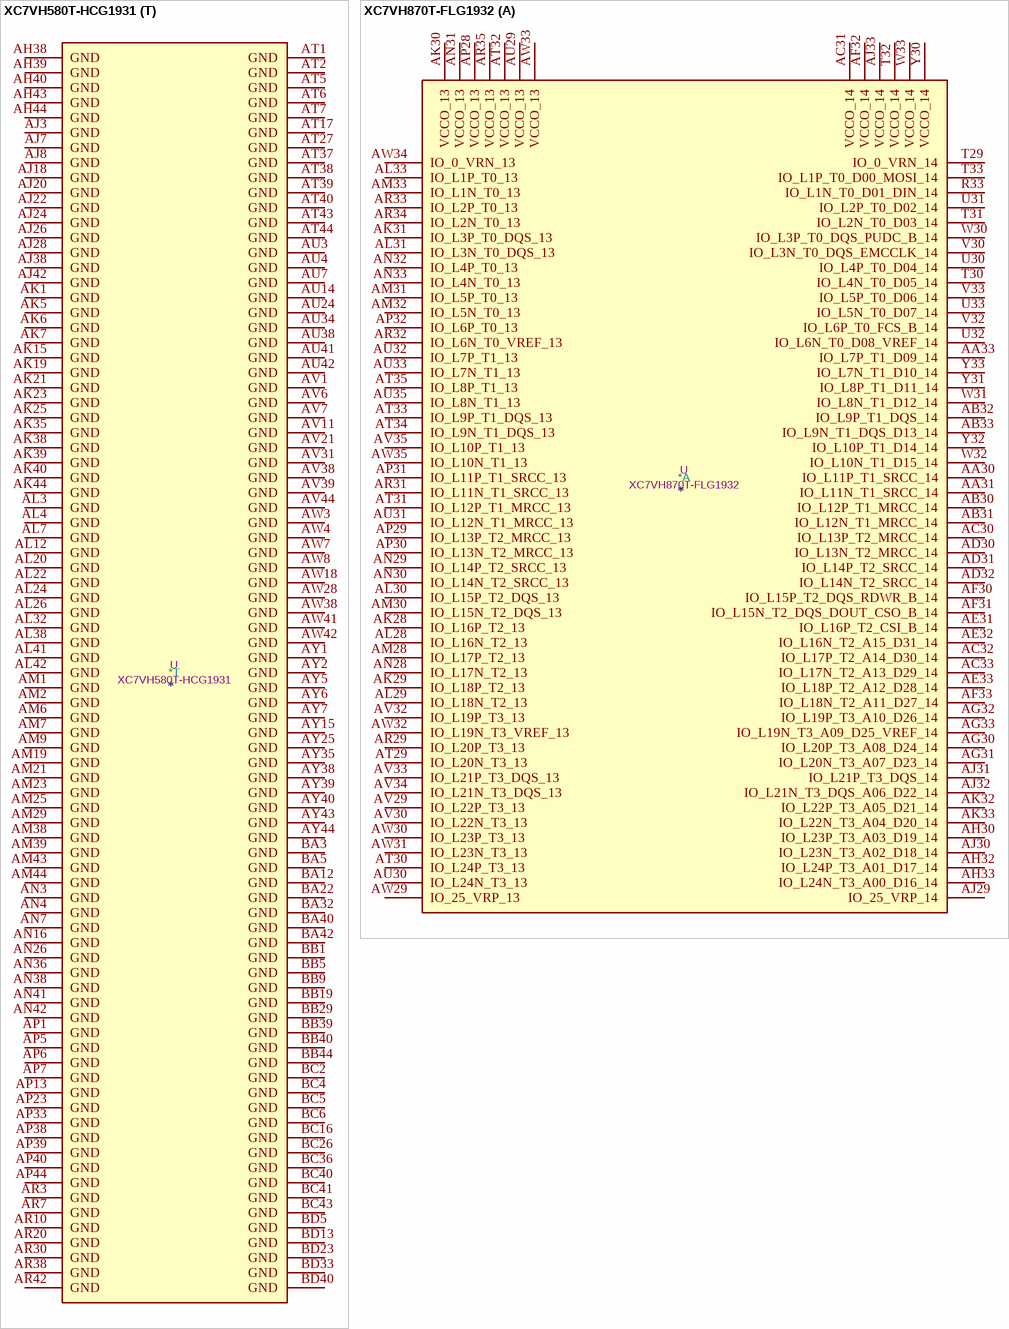
[diagram p42: symbols XC7VH580T-HCG1931 to XC7VH870T-FLG1932]

## XC7VH580T-HCG1931
designator *  value XC7VH580T-HCG1931  Reference: U
Virtex 7 HT 580 XC7VH580T-FLG1931; ki_keywords: FPGA; Description_: Virtex 7 HT 580 XC7VH580T-FLG1931
part A pins: AH30 IO_L20P_T3_A08_D24_14, AJ30 IO_L20N_T3_A07_D23_14, AJ31 IO_L16P_T2_CSI_B_14, AJ32 IO_L7P_T1_D09_14, AK30 VCCO_14, AK31 IO_L16N_T2_A15_D31_14, AK32 IO_L7N_T1_D10_14, AL30 IO_L24P_T3_A01_D17_14, AL31 IO_L18P_T2_A12_D28_14, AL35 IO_L1P_T0_13, AL36 IO_L3P_T0_DQS_13, AL37 VCCO_13, AM30 IO_L24N_T3_A00_D16_14, AM31 IO_L18N_T2_A11_D27_14, AM32 IO_L9P_T1_DQS_14, AM33 IO_L5P_T0_D06_14, AM34 VCCO_13, AM35 IO_L1N_T0_13, AM36 IO_L3N_T0_DQS_13, AM37 IO_L5P_T0_13, AN30 IO_L22P_T3_A05_D21_14, AN31 VCCO_14, AN32 IO_L9N_T1_DQS_D13_14, AN33 IO_L5N_T0_D07_14, AN34 IO_L4P_T0_13, AN35 IO_L2P_T0_13, AN37 IO_L5N_T0_13, AP30 IO_L22N_T3_A04_D20_14, AP31 IO_L13P_T2_MRCC_14, AP32 IO_L11P_T1_SRCC_14, AP34 IO_L4N_T0_13, AP35 IO_L2N_T0_13, AP36 IO_L6P_T0_13, AP37 IO_L7P_T1_13, AR31 IO_L13N_T2_MRCC_14, AR32 IO_L11N_T1_SRCC_14, AR33 IO_L1P_T0_D00_MOSI_14, AR34 IO_L10P_T1_13, AR35 VCCO_13, AR36 IO_L6N_T0_VREF_13, AR37 IO_L7N_T1_13, AT30 IO_L21P_T3_DQS_14, AT31 IO_L14P_T2_SRCC_14, AT32 VCCO_14, AT33 IO_L1N_T0_D01_DIN_14, AT34 IO_L10N_T1_13, AT35 IO_L11P_T1_SRCC_13, AT36 IO_L12P_T1_MRCC_13, AU30 IO_L21N_T3_DQS_A06_D22_14, AU31 IO_L14N_T2_SRCC_14, AU32 IO_L12P_T1_MRCC_14, AU33 IO_L3P_T0_DQS_PUDC_B_14, AU35 IO_L11N_T1_SRCC_13, AU36 IO_L12N_T1_MRCC_13, AU37 IO_L9P_T1_DQS_13, AV30 IO_L23P_T3_A03_D19_14, AV32 IO_L12N_T1_MRCC_14, AV33 IO_L3N_T0_DQS_EMCCLK_14, AV34 IO_L16P_T2_13, AV35 IO_L13P_T2_MRCC_13, AV36 VCCO_13, AV37 IO_L9N_T1_DQS_13, AW30 IO_L23N_T3_A02_D18_14, AW31 IO_L15P_T2_DQS_RDWR_B_14, AW32 IO_L8P_T1_D11_14, AW33 VCCO_14, AW34 IO_L16N_T2_13, AW35 IO_L13N_T2_MRCC_13, AW36 IO_L14P_T2_SRCC_13, AW37 IO_L8P_T1_13, AY30 VCCO_14, AY31 IO_L15N_T2_DQS_DOUT_CSO_B_14, AY32 IO_L8N_T1_D12_14, AY33 IO_L4P_T0_D04_14, AY34 IO_L17P_T2_13, AY36 IO_L14N_T2_SRCC_13, AY37 IO_L8N_T1_13, BA30 IO_L19P_T3_A10_D26_14, BA31 IO_L17P_T2_A14_D30_14, BA33 IO_L4N_T0_D05_14, BA34 IO_L17N_T2_13, BA35 IO_L15P_T2_DQS_13, BA36 IO_L18P_T2_13, BA37 VCCO_13, BA38 IO_L22P_T3_13, BA39 IO_L22N_T3_13, BB30 IO_L19N_T3_A09_D25_VREF_14, BB31 IO_L17N_T2_A13_D29_14, BB32 IO_L10P_T1_D14_14, BB33 IO_L6P_T0_FCS_B_14, BB34 VCCO_13, BB35 IO_L15N_T2_DQS_13, BB36 IO_L18N_T2_13, BB37 IO_L21P_T3_DQS_13, BB38 IO_L19P_T3_13, BC30 IO_25_VRP_14, BC31 VCCO_14, BC32 IO_L10N_T1_D15_14, BC33 IO_L6N_T0_D08_VREF_14, BC34 IO_L23P_T3_13, BC35 IO_L24P_T3_13, BC37 IO_L21N_T3_DQS_13, BC38 IO_L19N_T3_VREF_13, BC39 IO_25_VRP_13, BD30 IO_0_VRN_14, BD31 IO_L2P_T0_D02_14, BD32 IO_L2N_T0_D03_14, BD34 IO_L23N_T3_13, BD35 IO_L24N_T3_13, BD36 IO_L20P_T3_13, BD37 IO_L20N_T3_13, BD38 VCCO_13, BD39 IO_0_VRN_13
part B pins: AA33 IO_L2P_T0_16, AA34 IO_L2N_T0_16, AA35 IO_L3P_T0_DQS_16, AA36 IO_L3N_T0_DQS_16, AA37 VCCO_16, AB32 IO_L1P_T0_16, AB33 IO_L1N_T0_16, AB34 VCCO_16, AB35 IO_L5P_T0_16, AB36 IO_L6P_T0_16, AB37 IO_L6N_T0_VREF_16, AC31 VCCO_16, AC32 IO_L16P_T2_16, AC33 IO_L4P_T0_16, AC34 IO_L4N_T0_16, AC35 IO_L5N_T0_16, AC37 IO_L7P_T1_16, AD32 IO_L16N_T2_16, AD34 IO_L10P_T1_16, AD35 IO_L8P_T1_16, AD36 IO_L8N_T1_16, AD37 IO_L7N_T1_16, AE32 IO_L15P_T2_DQS_16, AE33 IO_L15N_T2_DQS_16, AE34 IO_L10N_T1_16, AE35 VCCO_16, AE36 IO_L9P_T1_DQS_16, AE37 IO_L9N_T1_DQS_16, AF32 VCCO_16, AF33 IO_L11P_T1_SRCC_16, AF34 IO_L11N_T1_SRCC_16, AF35 IO_L12P_T1_MRCC_16, AF36 IO_L12N_T1_MRCC_16, AG31 IO_L17P_T2_16, AG32 IO_L13P_T2_MRCC_16, AG33 IO_L13N_T2_MRCC_16, AG35 IO_L14P_T2_SRCC_16, AG36 IO_L14N_T2_SRCC_16, AG37 IO_L20P_T3_16, AH32 IO_L17N_T2_16, AH33 IO_L18P_T2_16, AH34 IO_L18N_T2_16, AH35 IO_L24P_T3_16, AH36 VCCO_16, AH37 IO_L20N_T3_16, AJ33 VCCO_16, AJ34 IO_L19P_T3_16, AJ35 IO_L24N_T3_16, AJ36 IO_L21P_T3_DQS_16, AJ37 IO_L21N_T3_DQS_16, AK27 IO_25_VRP_15, AK28 IO_L18P_T2_A24_15, AK29 IO_L22P_T3_A17_15, AK33 IO_L23P_T3_16, AK34 IO_L19N_T3_VREF_16, AK36 IO_L22P_T3_16, AK37 IO_L22N_T3_16, AL27 VCCO_15, AL28 IO_L18N_T2_A23_15, AL29 IO_L22N_T3_A16_15, AL33 IO_L23N_T3_16, AL34 IO_25_VRP_16, AM27 IO_L7P_T1_AD2P_15, AM28 IO_L16P_T2_A28_15, AN25 IO_L1P_T0_AD0P_15, AN27 IO_L7N_T1_AD2N_15, AN28 IO_L16N_T2_A27_15, AN29 IO_L20P_T3_A20_15, AP25 IO_L1N_T0_AD0N_15, AP26 IO_L5P_T0_AD9P_15, AP27 IO_L9P_T1_DQS_AD3P_15, AP28 VCCO_15, AP29 IO_L20N_T3_A19_15, AR25 VCCO_15, AR26 IO_L5N_T0_AD9N_15, AR27 IO_L9N_T1_DQS_AD3N_15, AR28 IO_L14P_T2_SRCC_15, AR29 IO_L24P_T3_RS1_15, AT25 IO_L4P_T0_15, AT26 IO_L3P_T0_DQS_AD1P_15, AT28 IO_L14N_T2_SRCC_15, AT29 IO_L24N_T3_RS0_15, AU25 IO_L4N_T0_15, AU26 IO_L3N_T0_DQS_AD1N_15, AU27 IO_L11P_T1_SRCC_15, AU28 IO_L13P_T2_MRCC_15, AU29 VCCO_15, AV25 IO_0_VRN_15, AV26 VCCO_15, AV27 IO_L11N_T1_SRCC_15, AV28 IO_L13N_T2_MRCC_15, AV29 IO_L21P_T3_DQS_15, AW26 IO_L6P_T0_15, AW27 IO_L12P_T1_MRCC_15, AW29 IO_L21N_T3_DQS_A18_15, AY26 IO_L6N_T0_VREF_15, AY27 IO_L12N_T1_MRCC_15, AY28 IO_L15P_T2_DQS_15, AY29 IO_L19P_T3_A22_15, BA26 IO_L2P_T0_AD8P_15, BA27 VCCO_15, BA28 IO_L15N_T2_DQS_ADV_B_15, BA29 IO_L19N_T3_A21_VREF_15, BB26 IO_L2N_T0_AD8N_15, BB27 IO_L10P_T1_AD11P_15, BB28 IO_L17P_T2_A26_15, BC27 IO_L10N_T1_AD11N_15, BC28 IO_L17N_T2_A25_15, BC29 IO_L23P_T3_FOE_B_15, BD26 IO_L8P_T1_AD10P_15, BD27 IO_L8N_T1_AD10N_15, BD28 VCCO_15, BD29 IO_L23N_T3_FWE_B_15, Y37 IO_0_VRN_16
part C pins: F29 IO_L22P_T3_18, F30 IO_L22N_T3_18, F31 IO_25_VRP_18, F32 VCCO_18, F33 IO_L24P_T3_18, F34 IO_L24N_T3_18, F35 IO_L20P_T3_18, F36 IO_L20N_T3_18, G29 VCCO_18, G30 IO_L23P_T3_18, G31 IO_L23N_T3_18, G32 IO_L21P_T3_DQS_18, G33 IO_L21N_T3_DQS_18, G35 IO_L19P_T3_18, G36 IO_L19N_T3_VREF_18, G37 IO_L7N_T1_18, H29 IO_L17P_T2_18, H30 IO_L17N_T2_18, H32 IO_L15P_T2_DQS_18, H33 IO_L15N_T2_DQS_18, H34 IO_L18P_T2_18, H35 IO_L18N_T2_18, H36 VCCO_18, H37 IO_L7P_T1_18, J29 IO_L16P_T2_18, J30 IO_L16N_T2_18, J31 IO_L14P_T2_SRCC_18, J32 IO_L14N_T2_SRCC_18, J33 VCCO_18, J34 IO_L13P_T2_MRCC_18, J35 IO_L13N_T2_MRCC_18, J36 IO_L9P_T1_DQS_18, J37 IO_L9N_T1_DQS_18, K29 IO_L10N_T1_18, K30 VCCO_18, K31 IO_L11P_T1_SRCC_18, K32 IO_L11N_T1_SRCC_18, K33 IO_L12P_T1_MRCC_18, K34 IO_L12N_T1_MRCC_18, K36 IO_L8N_T1_18, K37 IO_0_VRN_18, L29 IO_L10P_T1_18, L30 IO_L4P_T0_18, L31 IO_L4N_T0_18, L33 IO_L3P_T0_DQS_18, L34 IO_L3N_T0_DQS_18, L35 IO_L6N_T0_VREF_18, L36 IO_L8P_T1_18, L37 VCCO_18, M30 IO_L2P_T0_18, M31 IO_L2N_T0_18, M32 IO_L1P_T0_18, M33 IO_L1N_T0_18, M34 VCCO_18, M35 IO_L6P_T0_18, M36 IO_L5P_T0_18, M37 IO_L5N_T0_18, N29 IO_L4P_T0_17, N30 IO_L4N_T0_17, N31 VCCO_17, N32 IO_L2P_T0_17, N33 IO_L2N_T0_17, N34 IO_L6P_T0_17, N35 IO_L6N_T0_VREF_17, N37 IO_L1N_T0_17, P29 IO_L5P_T0_17, P30 IO_L5N_T0_17, P31 IO_L3P_T0_DQS_17, P32 IO_L3N_T0_DQS_17, P34 IO_0_VRN_17, P35 IO_L15P_T2_DQS_17, P36 IO_L15N_T2_DQS_17, P37 IO_L1P_T0_17, R29 IO_L8N_T1_17, R31 IO_L7P_T1_17, R32 IO_L7N_T1_17, R33 IO_L16P_T2_17, R34 IO_L16N_T2_17, R35 VCCO_17, R36 IO_L18P_T2_17, R37 IO_L18N_T2_17, T29 IO_L8P_T1_17, T30 IO_L9N_T1_DQS_17, T31 IO_L10N_T1_17, T32 VCCO_17, T33 IO_L13P_T2_MRCC_17, T34 IO_L13N_T2_MRCC_17, T35 IO_L14P_T2_SRCC_17, T36 IO_L14N_T2_SRCC_17, U29 VCCO_17, U30 IO_L9P_T1_DQS_17, U31 IO_L10P_T1_17, U32 IO_L11P_T1_SRCC_17, U33 IO_L11N_T1_SRCC_17, U35 IO_L12P_T1_MRCC_17, U36 IO_L12N_T1_MRCC_17, U37 IO_L17N_T2_17, V32 IO_L20P_T3_17, V33 IO_L20N_T3_17, V34 IO_L24P_T3_17, V35 IO_L24N_T3_17, V36 VCCO_17, V37 IO_L17P_T2_17, W32 IO_L19N_T3_VREF_17, W33 VCCO_17, W34 IO_L21P_T3_DQS_17, W35 IO_L21N_T3_DQS_17, W36 IO_L23P_T3_17, W37 IO_L23N_T3_17, Y32 IO_L19P_T3_17, Y33 IO_L22P_T3_17, Y34 IO_L22N_T3_17, Y36 IO_25_VRP_17
part D pins: AH14 IO_L6P_T0_33, AH15 IO_L10P_T1_33, AJ13 VCCO_33, AJ14 IO_L6N_T0_VREF_33, AJ15 IO_L10N_T1_33, AK13 IO_L3P_T0_DQS_33, AK14 IO_L2P_T0_33, AL13 IO_L3N_T0_DQS_33, AL14 IO_L2N_T0_33, AL15 IO_L7P_T1_33, AM12 IO_L1P_T0_33, AM13 IO_L4P_T0_33, AM14 VCCO_33, AM15 IO_L7N_T1_33, AN11 VCCO_32, AN12 IO_L1N_T0_33, AN13 IO_L4N_T0_33, AN14 IO_L9P_T1_DQS_33, AN15 IO_L8P_T1_33, AP8 VCCO_32, AP12 IO_L5P_T0_33, AP14 IO_L9N_T1_DQS_33, AP15 IO_L8N_T1_33, AR12 IO_L5N_T0_33, AR13 IO_L12P_T1_MRCC_33, AR14 IO_L11P_T1_SRCC_33, AR15 VCCO_33, AT12 VCCO_33, AT13 IO_L12N_T1_MRCC_33, AT14 IO_L11N_T1_SRCC_33, AT15 IO_L18P_T2_33, AU9 VCCO_32, AU12 IO_L15P_T2_DQS_33, AU13 IO_L13P_T2_MRCC_33, AU15 IO_L18N_T2_33, AV12 IO_L15N_T2_DQS_33, AV13 IO_L13N_T2_MRCC_33, AV14 IO_L14P_T2_SRCC_33, AV15 IO_L16P_T2_33, AW12 IO_L17P_T2_33, AW13 VCCO_33, AW14 IO_L14N_T2_SRCC_33, AW15 IO_L16N_T2_33, AY10 VCCO_32, AY12 IO_L17N_T2_33, AY13 IO_L19P_T3_33, AY14 IO_L20P_T3_33, BA7 VCCO_32, BA13 IO_L19N_T3_VREF_33, BA14 IO_L20N_T3_33, BA15 IO_L23P_T3_33, BB12 IO_L21N_T3_DQS_33, BB13 IO_L21P_T3_DQS_33, BB14 VCCO_33, BB15 IO_L23N_T3_33, BC11 VCCO_32, BC12 IO_L24N_T3_33, BC13 IO_L24P_T3_33, BC14 IO_L22N_T3_33, BC15 IO_L22P_T3_33, BD8 VCCO_32, BD12 IO_0_VRN_33, BD14 IO_25_VRP_33
part E pins: AH16 VCCO_34, AJ16 IO_L23P_T3_34, AK16 IO_L23N_T3_34, AK17 IO_L19P_T3_34, AL16 IO_L19N_T3_VREF_34, AL17 VCCO_34, AL18 IO_L21P_T3_DQS_34, AM16 IO_L24N_T3_34, AM17 IO_L24P_T3_34, AM18 IO_L21N_T3_DQS_34, AN17 IO_L20N_T3_34, AN18 IO_L20P_T3_34, AN19 IO_L22P_T3_34, AN20 IO_L22P_T3_35, AN21 VCCO_35, AN22 IO_L7N_T1_AD6N_35, AN23 IO_L7P_T1_AD6P_35, AN24 IO_L1P_T0_AD4P_35, AP16 IO_L16P_T2_34, AP17 IO_L17P_T2_34, AP18 VCCO_34, AP19 IO_L22N_T3_34, AP20 IO_L22N_T3_35, AP21 IO_L16P_T2_35, AP22 IO_L18P_T2_35, AP24 IO_L1N_T0_AD4N_35, AR16 IO_L16N_T2_34, AR17 IO_L17N_T2_34, AR18 IO_L15P_T2_DQS_34, AR19 IO_L18P_T2_34, AR21 IO_L16N_T2_35, AR22 IO_L18N_T2_35, AR23 IO_L9P_T1_DQS_AD7P_35, AR24 IO_L5P_T0_AD13P_35, AT16 IO_L10P_T1_34, AT18 IO_L15N_T2_DQS_34, AT19 IO_L18N_T2_34, AT20 IO_L20P_T3_35, AT21 IO_L15P_T2_DQS_35, AT22 VCCO_35, AT23 IO_L9N_T1_DQS_AD7N_35, AT24 IO_L5N_T0_AD13N_35, AU16 IO_L10N_T1_34, AU17 IO_L14N_T2_SRCC_34, AU18 IO_L14P_T2_SRCC_34, AU19 VCCO_34, AU20 IO_L20N_T3_35, AU21 IO_L15N_T2_DQS_35, AU22 IO_L14P_T2_SRCC_35, AU23 IO_L12P_T1_MRCC_35, AV16 VCCO_34, AV17 IO_L13N_T2_MRCC_34, AV18 IO_L13P_T2_MRCC_34, AV19 IO_L8P_T1_34, AV20 IO_L24P_T3_35, AV22 IO_L14N_T2_SRCC_35, AV23 IO_L12N_T1_MRCC_35, AV24 IO_L3P_T0_DQS_AD5P_35, AW16 IO_L9P_T1_DQS_34, AW17 IO_L11P_T1_SRCC_34, AW19 IO_L8N_T1_34, AW20 IO_L24N_T3_35, AW21 IO_L21P_T3_DQS_35, AW22 IO_L13P_T2_MRCC_35, AW23 VCCO_35, AW24 IO_L3N_T0_DQS_AD5N_35, AW25 IO_0_VRN_35, AY16 IO_L9N_T1_DQS_34, AY17 IO_L11N_T1_SRCC_34, AY18 IO_L12N_T1_MRCC_34, AY19 IO_L12P_T1_MRCC_34, AY20 VCCO_35, AY21 IO_L21N_T3_DQS_35, AY22 IO_L13N_T2_MRCC_35, AY23 IO_L11P_T1_SRCC_35, AY24 IO_L4P_T0_35, BA16 IO_L6P_T0_34, BA17 VCCO_34, BA18 IO_L4P_T0_34, BA19 IO_L7N_T1_34, BA20 IO_L7P_T1_34, BA21 IO_L23P_T3_35, BA23 IO_L11N_T1_SRCC_35, BA24 IO_L4N_T0_35, BA25 IO_L2P_T0_AD12P_35, BB16 IO_L6N_T0_VREF_34, BB17 IO_L5P_T0_34, BB18 IO_L4N_T0_34, BB20 IO_25_VRP_35, BB21 IO_L23N_T3_35, BB22 IO_L17P_T2_35, BB23 IO_L8P_T1_AD14P_35, BB24 VCCO_35, BB25 IO_L2N_T0_AD12N_35, BC17 IO_L5N_T0_34, BC18 IO_L3N_T0_DQS_34, BC19 IO_L3P_T0_DQS_34, BC20 IO_0_VRN_34, BC21 VCCO_35, BC22 IO_L17N_T2_35, BC23 IO_L8N_T1_AD14N_35, BC24 IO_L10P_T1_AD15P_35, BC25 IO_L6P_T0_35, BD15 IO_25_VRP_34, BD16 IO_L2N_T0_34, BD17 IO_L2P_T0_34, BD18 VCCO_34, BD19 IO_L1N_T0_34, BD20 IO_L1P_T0_34, BD21 IO_L19N_T3_VREF_35, BD22 IO_L19P_T3_35, BD24 IO_L10N_T1_AD15N_35, BD25 IO_L6N_T0_VREF_35
part F pins: AA8 IO_L19N_T3_VREF_36, AA9 IO_L20P_T3_36, AA10 IO_L21N_T3_DQS_36, AA11 IO_L21P_T3_DQS_36, AA13 IO_L23N_T3_36, AB8 IO_L19P_T3_36, AB10 IO_L16P_T2_36, AB11 IO_L24N_T3_36, AB12 IO_L24P_T3_36, AB13 IO_L23P_T3_36, AB14 VCCO_36, AC8 IO_L17N_T2_36, AC9 IO_L17P_T2_36, AC10 IO_L16N_T2_36, AC11 VCCO_36, AC12 IO_L22N_T3_36, AC13 IO_L22P_T3_36, AD8 VCCO_36, AD9 IO_L13N_T2_MRCC_36, AD10 IO_L13P_T2_MRCC_36, AD11 IO_L14P_T2_SRCC_36, AD12 IO_L8P_T1_36, AE8 IO_L18P_T2_36, AE9 IO_L15P_T2_DQS_36, AE11 IO_L14N_T2_SRCC_36, AE12 IO_L8N_T1_36, AE13 IO_L10P_T1_36, AF8 IO_L18N_T2_36, AF9 IO_L15N_T2_DQS_36, AF10 IO_L12P_T1_MRCC_36, AF11 IO_L11P_T1_SRCC_36, AF12 VCCO_36, AF13 IO_L10N_T1_36, AG8 IO_L6P_T0_36, AG9 VCCO_36, AG10 IO_L12N_T1_MRCC_36, AG11 IO_L11N_T1_SRCC_36, AG12 IO_L9P_T1_DQS_36, AG13 IO_L7P_T1_36, AH8 IO_L6N_T0_VREF_36, AH9 IO_L4N_T0_36, AH10 IO_L4P_T0_36, AH12 IO_L9N_T1_DQS_36, AH13 IO_L7N_T1_36, AJ9 IO_L3N_T0_DQS_36, AJ10 IO_L3P_T0_DQS_36, AJ11 IO_L5P_T0_36, AJ12 IO_L1P_T0_36, AK8 IO_L2N_T0_36, AK9 IO_L2P_T0_36, AK10 VCCO_36, AK11 IO_L5N_T0_36, AK12 IO_L1N_T0_36, AL11 IO_0_VRN_36, M8 IO_L1N_T0_37, N8 IO_L1P_T0_37, N9 IO_L6N_T0_VREF_37, N10 IO_L6P_T0_37, N11 VCCO_37, N12 IO_L2N_T0_37, N13 IO_L2P_T0_37, N14 IO_L5N_T0_37, N15 IO_0_VRN_37, P8 VCCO_37, P9 IO_L18N_T2_37, P10 IO_L18P_T2_37, P11 IO_L3N_T0_DQS_37, P12 IO_L3P_T0_DQS_37, P14 IO_L5P_T0_37, P15 IO_L4N_T0_37, P16 IO_L4P_T0_37, R8 IO_L16N_T2_37, R9 IO_L15N_T2_DQS_37, R11 IO_L14N_T2_SRCC_37, R12 IO_L14P_T2_SRCC_37, R13 IO_L8P_T1_37, R14 IO_L8N_T1_37, R15 VCCO_37, R16 IO_L7N_T1_37, T8 IO_L16P_T2_37, T9 IO_L15P_T2_DQS_37, T10 IO_L13N_T2_MRCC_37, T11 IO_L13P_T2_MRCC_37, T12 VCCO_37, T13 IO_L9N_T1_DQS_37, T14 IO_L9P_T1_DQS_37, T15 IO_L10P_T1_37, T16 IO_L7P_T1_37, U8 IO_L17N_T2_37, U9 VCCO_37, U10 IO_L12N_T1_MRCC_37, U11 IO_L12P_T1_MRCC_37, U12 IO_L11N_T1_SRCC_37, U13 IO_L11P_T1_SRCC_37, U15 IO_L10N_T1_37, V8 IO_L17P_T2_37, V9 IO_L19N_T3_VREF_37, V10 IO_L19P_T3_37, V12 IO_L24N_T3_37, V13 IO_L24P_T3_37, V14 IO_L20N_T3_37, W9 IO_L23N_T3_37, W10 IO_L23P_T3_37, W11 IO_L21N_T3_DQS_37, W12 IO_L21P_T3_DQS_37, W13 VCCO_37, W14 IO_L20P_T3_37, Y8 IO_25_VRP_36, Y9 IO_L20N_T3_36, Y10 VCCO_36, Y11 IO_L22N_T3_37, Y12 IO_L22P_T3_37, Y13 IO_25_VRP_37
part G pins: F8 IO_0_VRN_38, F9 IO_25_VRP_38, F10 IO_L20N_T3_38, F11 IO_L20P_T3_38, F12 VCCO_38, F13 IO_L24N_T3_38, F14 IO_L24P_T3_38, F15 IO_L22N_T3_38, F16 IO_L22P_T3_38, G8 IO_L7N_T1_38, G9 VCCO_38, G10 IO_L19N_T3_VREF_38, G11 IO_L19P_T3_38, G12 IO_L21N_T3_DQS_38, G13 IO_L21P_T3_DQS_38, G15 IO_L23N_T3_38, G16 IO_L23P_T3_38, H8 IO_L7P_T1_38, H9 IO_L18N_T2_38, H10 IO_L18P_T2_38, H12 IO_L14N_T2_SRCC_38, H13 IO_L14P_T2_SRCC_38, H14 IO_L17N_T2_38, H15 IO_L17P_T2_38, H16 VCCO_38, J9 IO_L9N_T1_DQS_38, J10 IO_L9P_T1_DQS_38, J11 IO_L13N_T2_MRCC_38, J12 IO_L13P_T2_MRCC_38, J13 VCCO_38, J14 IO_L15N_T2_DQS_38, J15 IO_L15P_T2_DQS_38, J16 IO_L16N_T2_38, K8 IO_L8N_T1_38, K9 IO_L8P_T1_38, K10 VCCO_38, K11 IO_L12N_T1_MRCC_38, K12 IO_L12P_T1_MRCC_38, K13 IO_L11N_T1_SRCC_38, K14 IO_L11P_T1_SRCC_38, K16 IO_L16P_T2_38, L8 IO_L10N_T1_38, L9 IO_L10P_T1_38, L10 IO_L6N_T0_VREF_38, L11 IO_L5N_T0_38, L13 IO_L3N_T0_DQS_38, L14 IO_L3P_T0_DQS_38, L15 IO_L4N_T0_38, L16 IO_L4P_T0_38, M10 IO_L6P_T0_38, M11 IO_L5P_T0_38, M12 IO_L1N_T0_38, M13 IO_L1P_T0_38, M14 VCCO_38, M15 IO_L2N_T0_38, M16 IO_L2P_T0_38
part H pins: AJ5 MGTREFCLK0N_114, AJ6 MGTREFCLK0P_114, AK3 MGTHRXN3_114, AK4 MGTHRXP3_114, AL1 MGTHTXN3_114, AL2 MGTHTXP3_114, AL5 MGTREFCLK1N_114, AL6 MGTREFCLK1P_114, AM3 MGTHRXN2_114, AM4 MGTHRXP2_114, AN1 MGTHTXN2_114, AN2 MGTHTXP2_114, AN5 MGTREFCLK0N_113, AN6 MGTREFCLK0P_113, AP3 MGTHRXN1_114, AP4 MGTHRXP1_114, AR1 MGTHTXN1_114, AR2 MGTHTXP1_114, AR5 MGTREFCLK1N_113, AR6 MGTREFCLK1P_113, AT3 MGTHRXN0_114, AT4 MGTHRXP0_114, AU1 MGTHTXN0_114, AU2 MGTHTXP0_114, AU5 MGTHRXN3_113, AU6 MGTHRXP3_113, AV3 MGTHRXN2_113, AV4 MGTHRXP2_113, AW1 MGTHTXN3_113, AW2 MGTHTXP3_113, AW5 MGTHRXN1_113, AW6 MGTHRXP1_113, AY3 MGTHRXN0_113, AY4 MGTHRXP0_113, BA1 MGTHTXN2_113, BA2 MGTHTXP2_113, BB3 MGTHTXN1_113, BB4 MGTHTXP1_113, BD3 MGTHTXN0_113, BD4 MGTHTXP0_113
part I pins: AA1 MGTHTXN0_116, AA2 MGTHTXP0_116, AA5 MGTREFCLK1N_116, AA6 MGTREFCLK1P_116, AB3 MGTHRXN3_115, AB4 MGTHRXP3_115, AC1 MGTHTXN3_115, AC2 MGTHTXP3_115, AC5 MGTREFCLK0N_115, AC6 MGTREFCLK0P_115, AD3 MGTHRXN2_115, AD4 MGTHRXP2_115, AE1 MGTHTXN2_115, AE2 MGTHTXP2_115, AE5 MGTREFCLK1N_115, AE6 MGTREFCLK1P_115, AF3 MGTHRXN1_115, AF4 MGTHRXP1_115, AG1 MGTHTXN1_115, AG2 MGTHTXP1_115, AH3 MGTHRXN0_115, AH4 MGTHRXP0_115, AJ1 MGTHTXN0_115, AJ2 MGTHTXP0_115, P3 MGTHRXN3_116, P4 MGTHRXP3_116, R1 MGTHTXN3_116, R2 MGTHTXP3_116, T3 MGTHRXN2_116, T4 MGTHRXP2_116, U1 MGTHTXN2_116, U2 MGTHTXP2_116, U5 MGTREFCLK0N_116, U6 MGTREFCLK0P_116, V3 MGTHRXN1_116, V4 MGTHRXP1_116, W1 MGTHTXN1_116, W2 MGTHTXP1_116, Y3 MGTHRXN0_116, Y4 MGTHRXP0_116
part J pins: A5 MGTHRXN3_118, A6 MGTHRXP3_118, B3 MGTHTXN3_118, B4 MGTHTXP3_118, C1 MGTHTXN1_118, C2 MGTHTXP1_118, C5 MGTHRXN2_118, C6 MGTHRXP2_118, D3 MGTHTXN2_118, D4 MGTHTXP2_118, E1 MGTHTXN0_118, E2 MGTHTXP0_118, E5 MGTHRXN1_118, E6 MGTHRXP1_118, F3 MGTHRXN3_117, F4 MGTHRXP3_117, G1 MGTHTXN3_117, G2 MGTHTXP3_117, G5 MGTHRXN0_118, G6 MGTHRXP0_118, H3 MGTHRXN2_117, H4 MGTHRXP2_117, J1 MGTHTXN2_117, J2 MGTHTXP2_117, J5 MGTREFCLK0N_118, J6 MGTREFCLK0P_118, K3 MGTHRXN1_117, K4 MGTHRXP1_117, L1 MGTHTXN1_117, L2 MGTHTXP1_117, L5 MGTREFCLK1N_118, L6 MGTREFCLK1P_118, M3 MGTHRXN0_117, M4 MGTHRXP0_117, N1 MGTHTXN0_117, N2 MGTHTXP0_117, N5 MGTREFCLK0N_117, N6 MGTREFCLK0P_117, R5 MGTREFCLK1N_117, R6 MGTREFCLK1P_117
part K pins: AJ39 MGTREFCLK0P_214, AJ40 MGTREFCLK0N_214, AK41 MGTHRXP3_214, AK42 MGTHRXN3_214, AL39 MGTREFCLK1P_214, AL40 MGTREFCLK1N_214, AL43 MGTHTXP3_214, AL44 MGTHTXN3_214, AM41 MGTHRXP2_214, AM42 MGTHRXN2_214, AN39 MGTREFCLK0P_213, AN40 MGTREFCLK0N_213, AN43 MGTHTXP2_214, AN44 MGTHTXN2_214, AP41 MGTHRXP1_214, AP42 MGTHRXN1_214, AR39 MGTREFCLK1P_213, AR40 MGTREFCLK1N_213, AR43 MGTHTXP1_214, AR44 MGTHTXN1_214, AT41 MGTHRXP0_214, AT42 MGTHRXN0_214, AU39 MGTHRXP3_213, AU40 MGTHRXN3_213, AU43 MGTHTXP0_214, AU44 MGTHTXN0_214, AV41 MGTHRXP2_213, AV42 MGTHRXN2_213, AW39 MGTHRXP1_213, AW40 MGTHRXN1_213, AW43 MGTHTXP3_213, AW44 MGTHTXN3_213, AY41 MGTHRXP0_213, AY42 MGTHRXN0_213, BA43 MGTHTXP2_213, BA44 MGTHTXN2_213, BB41 MGTHTXP1_213, BB42 MGTHTXN1_213, BD41 MGTHTXP0_213, BD42 MGTHTXN0_213
part L pins: AA39 MGTREFCLK1P_216, AA40 MGTREFCLK1N_216, AA43 MGTHTXP0_216, AA44 MGTHTXN0_216, AB41 MGTHRXP3_215, AB42 MGTHRXN3_215, AC39 MGTREFCLK0P_215, AC40 MGTREFCLK0N_215, AC43 MGTHTXP3_215, AC44 MGTHTXN3_215, AD41 MGTHRXP2_215, AD42 MGTHRXN2_215, AE39 MGTREFCLK1P_215, AE40 MGTREFCLK1N_215, AE43 MGTHTXP2_215, AE44 MGTHTXN2_215, AF41 MGTHRXP1_215, AF42 MGTHRXN1_215, AG43 MGTHTXP1_215, AG44 MGTHTXN1_215, AH41 MGTHRXP0_215, AH42 MGTHRXN0_215, AJ43 MGTHTXP0_215, AJ44 MGTHTXN0_215, P41 MGTHRXP3_216, P42 MGTHRXN3_216, R43 MGTHTXP3_216, R44 MGTHTXN3_216, T41 MGTHRXP2_216, T42 MGTHRXN2_216, U39 MGTREFCLK0P_216, U40 MGTREFCLK0N_216, U43 MGTHTXP2_216, U44 MGTHTXN2_216, V41 MGTHRXP1_216, V42 MGTHRXN1_216, W43 MGTHTXP1_216, W44 MGTHTXN1_216, Y41 MGTHRXP0_216, Y42 MGTHRXN0_216
part M pins: A39 MGTHRXP3_218, A40 MGTHRXN3_218, B41 MGTHTXP3_218, B42 MGTHTXN3_218, C39 MGTHRXP2_218, C40 MGTHRXN2_218, C43 MGTHTXP1_218, C44 MGTHTXN1_218, D41 MGTHTXP2_218, D42 MGTHTXN2_218, E39 MGTHRXP1_218, E40 MGTHRXN1_218, E43 MGTHTXP0_218, E44 MGTHTXN0_218, F41 MGTHRXP3_217, F42 MGTHRXN3_217, G39 MGTHRXP0_218, G40 MGTHRXN0_218, G43 MGTHTXP3_217, G44 MGTHTXN3_217, H41 MGTHRXP2_217, H42 MGTHRXN2_217, J39 MGTREFCLK0P_218, J40 MGTREFCLK0N_218, J43 MGTHTXP2_217, J44 MGTHTXN2_217, K41 MGTHRXP1_217, K42 MGTHRXN1_217, L39 MGTREFCLK1P_218, L40 MGTREFCLK1N_218, L43 MGTHTXP1_217, L44 MGTHTXN1_217, M41 MGTHRXP0_217, M42 MGTHRXN0_217, N39 MGTREFCLK0P_217, N40 MGTREFCLK0N_217, N43 MGTHTXP0_217, N44 MGTHTXN0_217, R39 MGTREFCLK1P_217, R40 MGTREFCLK1N_217
part N pins: AA3 MGTAVTT_G12, AA42 MGTAVTT_G22, AB2 MGTAVTT_G12, AB6 MGTVCCAUX_G12, AB39 MGTVCCAUX_G22, AB43 MGTAVTT_G22, AC4 MGTAVCC_G11, AC41 MGTAVCC_G21, AD2 MGTAVTT_G11, AD6 MGTVCCAUX_G11, AD39 MGTVCCAUX_G21, AD43 MGTAVTT_G21, AF2 MGTAVTT_G11, AF5 MGTAVCC_G11, AF40 MGTAVCC_G21, AF43 MGTAVTT_G21, AG3 MGTAVTT_G11, AG5 MGTRREF_115, AG6 MGTAVTTRCAL_115, AG39 MGTAVTTRCAL_215, AG40 MGTRREF_215, AG42 MGTAVTT_G21, AJ4 MGTAVCC_G11, AJ41 MGTAVCC_G21, AK2 MGTAVTT_G11, AK43 MGTAVTT_G21, AM5 MGTAVCC_G11, AM40 MGTAVCC_G21, AP2 MGTAVTT_G11, AP43 MGTAVTT_G21, AR4 MGTAVCC_G11, AR41 MGTAVCC_G21, AV2 MGTAVTT_G11, AV5 MGTAVCC_G11, AV40 MGTAVCC_G21, AV43 MGTAVTT_G21, B5 MGTAVCC_G12, B40 MGTAVCC_G22, BA4 MGTAVCC_G11, BA41 MGTAVCC_G21, BB2 MGTAVTT_G11, BB43 MGTAVTT_G21, BC3 MGTAVTT_G11, BC42 MGTAVTT_G21, C3 MGTAVTT_G12, C42 MGTAVTT_G22, D2 MGTAVTT_G12, D43 MGTAVTT_G22, E4 MGTAVCC_G12, E41 MGTAVCC_G22, F2 MGTAVTT_G12, F43 MGTAVTT_G22, H5 MGTAVCC_G12, H40 MGTAVCC_G22, K2 MGTAVTT_G12, K43 MGTAVTT_G22, L4 MGTAVCC_G12, L41 MGTAVCC_G22, P2 MGTAVTT_G12, P5 MGTAVCC_G12, P40 MGTAVCC_G22, P43 MGTAVTT_G22, U4 MGTAVCC_G12, U41 MGTAVCC_G22, V2 MGTAVTT_G12, V43 MGTAVTT_G22, W5 MGTRREF_118, W6 MGTAVTTRCAL_118, W39 MGTAVTTRCAL_218, W40 MGTRREF_218, Y5 MGTAVCC_G12, Y40 MGTAVCC_G22
part O pins: A9 MGTZRXN7_300, A10 MGTZRXP7_300, A12 MGTZRXN5_300, A13 MGTZRXP5_300, A16 MGTZTXN7_300, A17 MGTZTXP7_300, A19 MGTZTXN5_300, A20 MGTZTXP5_300, A24 MGTZRXN3_300, A25 MGTZRXP3_300, A27 MGTZRXN1_300, A28 MGTZRXP1_300, A31 MGTZTXN3_300, A32 MGTZTXP3_300, A34 MGTZTXN1_300, A35 MGTZTXP1_300, C10 MGTZRXN6_300, C11 MGTZRXP6_300, C13 MGTZRXN4_300, C14 MGTZRXP4_300, C17 MGTZTXN6_300, C18 MGTZTXP6_300, C20 MGTZTXN4_300, C21 MGTZTXP4_300, C25 MGTZRXN2_300, C26 MGTZRXP2_300, C28 MGTZRXN0_300, C29 MGTZRXP0_300, C32 MGTZTXN2_300, C33 MGTZTXP2_300, C35 MGTZTXN0_300, C36 MGTZTXP0_300, E20 MGTZREFCLK0N_300, E21 MGTZREFCLK0P_300, E24 MGTZREFCLK1P_300, E25 MGTZREFCLK1N_300, G20 MGTZ_THERM_IN_300, G21 MGTZ_THERM_OUT_300, H22 MGTZ_OBS_CLK_N_300, J22 MGTZ_OBS_CLK_P_300
part P pins: A8 MGTZAGND_300, A11 MGTZAGND_300, A14 MGTZAGND_300, A15 MGTZAGND_300, A18 MGTZAGND_300, A21 MGTZAGND_300, A22 MGTZAGND_300, A23 MGTZAGND_300, A26 MGTZAGND_300, A29 MGTZAGND_300, A30 MGTZAGND_300, A33 MGTZAGND_300, A36 MGTZAGND_300, A37 MGTZAGND_300, B8 MGTZAGND_300, B9 MGTZAVCC_300, B10 MGTZAGND_300, B11 MGTZAVCC_300, B12 MGTZAGND_300, B13 MGTZAVCC_300, B14 MGTZAGND_300, B15 MGTZAVCC_300, B16 MGTZAGND_300, B17 MGTZAVCC_300, B18 MGTZAGND_300, B19 MGTZAVCC_300, B20 MGTZAGND_300, B21 MGTZAVCC_300, B22 MGTZAGND_300, B23 MGTZAVCC_300, B24 MGTZAGND_300, B25 MGTZAVCC_300, B26 MGTZAGND_300, B27 MGTZAVCC_300, B28 MGTZAGND_300, B29 MGTZAVCC_300, B30 MGTZAGND_300, B31 MGTZAVCC_300, B32 MGTZAGND_300, B33 MGTZAVCC_300, B34 MGTZAGND_300, B35 MGTZAVCC_300, B36 MGTZAGND_300, B37 MGTZAVCC_300, C8 MGTZAGND_300, C9 MGTZAGND_300, C12 MGTZAGND_300, C15 MGTZAGND_300, C16 MGTZAGND_300, C19 MGTZAGND_300, C22 MGTZAGND_300, C23 MGTZAGND_300, C24 MGTZAGND_300, C27 MGTZAGND_300, C30 MGTZAGND_300, C31 MGTZAGND_300, C34 MGTZAGND_300, C37 MGTZAGND_300, D8 MGTZAGND_300, D9 MGTZAGND_300, D10 MGTZAGND_300, D11 MGTZAGND_300, D12 MGTZAGND_300, D13 MGTZAGND_300, D14 MGTZAGND_300, D15 MGTZAGND_300, D16 MGTZAGND_300, D17 MGTZAGND_300, D18 MGTZAGND_300, D19 MGTZAGND_300, D20 MGTZAGND_300, D21 MGTZAGND_300, D22 MGTZAGND_300, D23 MGTZAGND_300, D24 MGTZAGND_300, D25 MGTZAGND_300, D26 MGTZAGND_300, D27 MGTZAGND_300, D28 MGTZAGND_300, D29 MGTZAGND_300, D30 MGTZAGND_300, D31 MGTZAGND_300, D32 MGTZAGND_300, D33 MGTZAGND_300, D34 MGTZAGND_300, D35 MGTZAGND_300, D36 MGTZAGND_300, D37 MGTZAGND_300, E18 MGTZ_SENSE_AVCC_300, F18 MGTZ_SENSE_AGND_300, F20 MGTZVCCH_300, F22 MGTZVCCH_300, F24 MGTZVCCH_300, F26 MGTZVCCH_300, G18 MGTZVCCH_300, G26 MGTZ_SENSE_GND_300, G27 MGTZ_SENSE_VCCH_300, H26 MGTZ_SENSE_VCC_300, J19 MGTZVCCH_300, J21 MGTZVCCH_300, J23 MGTZVCCH_300, J25 MGTZVCCH_300, J27 MGTZVCCH_300, K19 MGTZ_SENSE_VCCL_300, K20 MGTZ_SENSE_GNDL_300, L20 MGTZVCCL_300, L22 MGTZVCCL_300, L24 MGTZVCCL_300, L26 MGTZVCCL_300
part Q pins: AB22 VREFN_0, AB23 VP_0, AC22 VN_0, AC23 VREFP_0, AD22 DXN_0, AD23 DXP_0, L18 TCK_0, M17 INIT_B_0, M19 CCLK_0, M21 TDI_0, M23 M2_0, M25 M0_0, N26 TDO_0, P23 PROGRAM_B_0, P27 TMS_0, T19 M1_0, T27 DONE_0, V17 VCCO_0, W16 VCCO_0
part R pins: A3 GND, A4 GND, A7 GND, A38 GND, A41 GND, A42 GND, AA15 VCCINT, AA17 VCCINT, AA19 VCCAUX_IO_G3, AA21 VCCINT, AA22 GNDADC, AA23 VCCADC, AA25 VCCAUX_IO_G1, AA27 VCCINT, AA29 VCCINT, AA31 VCCINT, AB16 VCCINT, AB18 VCCAUX, AB20 VCCINT, AB24 VCCBRAM, AB26 VCCAUX, AB28 VCCINT, AB30 VCCINT, AC15 VCCINT, AC17 VCCINT, AC19 VCCAUX_IO_G3, AC21 VCCINT, AC25 VCCAUX_IO_G1, AC27 VCCINT, AC29 VCCINT, AD14 VCCINT, AD16 VCCINT, AD18 VCCAUX, AD20 VCCINT, AD24 VCCBRAM, AD26 VCCAUX, AD28 VCCINT, AD30 VCCINT, AE15 VCCINT, AE17 VCCINT, AE19 VCCAUX_IO_G2, AE21 VCCINT, AE23 VCCINT, AE25 VCCAUX_IO_G1, AE27 VCCINT, AE29 VCCINT, AE31 VCCINT, AF14 VCCINT, AF16 VCCINT, AF18 VCCAUX, AF20 VCCINT, AF22 VCCINT, AF24 VCCBRAM, AF26 VCCAUX, AF28 VCCINT, AF30 VCCINT, AG15 VCCINT, AG17 VCCINT, AG19 VCCAUX_IO_G2, AG21 VCCINT, AG23 VCCINT, AG25 VCCAUX_IO_G0, AG27 VCCINT, AG29 VCCINT, AH18 VCCAUX, AH20 VCCINT, AH22 VCCINT, AH24 VCCBRAM, AH26 VCCAUX, AH28 VCCINT, AJ17 VCCINT, AJ19 VCCAUX_IO_G2, AJ21 VCCINT, AJ23 VCCINT, AJ25 VCCAUX_IO_G0, AJ27 VCCINT, AJ29 VCCINT, AK18 VCCAUX, AK20 VCCINT, AK22 VCCINT, AK24 VCCBRAM, AK26 VCCAUX, AL19 VCCAUX_IO_G2, AL21 VCCINT, AL23 VCCINT, AL25 VCCAUX_IO_G0, AM20 VCCINT, AM22 VCCINT, AM24 VCCBRAM, AM26 VCCAUX, B2 GND, B6 GND, B7 GND, B38 GND, B39 GND, B43 GND, C4 GND, C7 GND, C38 GND, C41 GND, D1 GND, D5 GND, D6 GND, D7 GND, D38 GND, D39 GND, D40 GND, D44 GND, E3 GND, E7 GND, E8 GND, E9 GND, E10 GND, E11 GND, E12 GND, E13 GND, E14 GND, E15 GND, E16 GND, E17 GND, E19 GND, E22 GND, E23 GND, E26 GND, E27 GND, E28 GND, E29 GND, E30 GND, E31 GND, E32 GND, E33 GND, E34 GND, E35 GND, E36 GND, E37 GND, E38 GND, E42 GND, F1 GND, F5 GND, F6 GND, F7 GND, F17 GND, F19 GND, F21 GND, F23 GND, F25 GND, F27 GND, F28 GND, F37 GND, F38 GND, F39 GND, F40 GND, F44 GND, G3 GND, G4 GND, G7 GND, G14 GND, G17 GND, G19 GND, G22 GND, G23 GND, G24 GND, G25 GND, G28 GND, G34 GND, G38 GND, G41 GND, G42 GND, H1 GND, H2 GND, H6 GND, H7 GND, H11 GND, H17 GND, H18 GND, H19 GND, H20 GND, H21 GND, H23 GND, H24 GND, H25 GND, H27 GND, H28 GND, H31 GND, M27 VCCBATT_0, N17 VCCINT, N19 VCCINT, N21 VCCINT, N23 VCCINT, N25 VCCINT, N27 VCCINT, P18 VCCINT, P20 VCCINT, P22 VCCINT, P24 VCCINT, P26 VCCINT, P28 VCCINT, R17 VCCINT, R19 VCCINT, R21 VCCINT, R23 VCCINT, R25 VCCINT, R27 VCCINT, T18 VCCINT, T20 VCCINT, T22 VCCINT, T24 VCCINT, T26 VCCINT, T28 VCCINT, U17 VCCINT, U19 VCCINT, U21 VCCINT, U23 VCCBRAM, U25 VCCINT, U27 VCCINT, V16 VCCINT, V18 VCCINT, V20 VCCINT, V22 VCCINT, V24 VCCBRAM, V26 VCCINT, V28 VCCINT, V30 VCCINT, W15 VCCINT, W17 VCCINT, W19 VCCAUX_IO_G3, W21 VCCINT, W23 VCCBRAM, W25 VCCINT, W27 VCCINT, W29 VCCINT, W31 VCCINT, Y14 VCCINT, Y16 VCCINT, Y18 VCCAUX, Y20 VCCINT, Y22 VCCINT, Y24 VCCBRAM, Y26 VCCINT, Y28 VCCINT, Y30 VCCINT
part S pins: AA4 GND, AA7 GND, AA12 GND, AA14 GND, AA16 GND, AA18 GND, AA20 GND, AA24 GND, AA26 GND, AA28 GND, AA30 GND, AA32 GND, AA38 GND, AA41 GND, AB1 GND, AB5 GND, AB7 GND, AB9 GND, AB15 GND, AB17 GND, AB19 GND, AB21 GND, AB25 GND, AB27 GND, AB29 GND, AB31 GND, AB38 GND, AB40 GND, AB44 GND, AC3 GND, AC7 GND, AC14 GND, AC16 GND, AC18 GND, AC20 GND, AC24 GND, AC26 GND, AC28 GND, AC30 GND, AC36 GND, AC38 GND, AC42 GND, AD1 GND, AD5 GND, AD7 GND, AD13 GND, AD15 GND, AD17 GND, AD19 GND, AD21 GND, AD25 GND, AD27 GND, AD29 GND, AD31 GND, AD33 GND, AD38 GND, AD40 GND, AD44 GND, AE3 GND, AE4 GND, AE7 GND, AE10 GND, AE14 GND, AE16 GND, AE18 GND, AE20 GND, AE22 GND, AE24 GND, AE26 GND, AE28 GND, AE30 GND, AE38 GND, AE41 GND, AE42 GND, AF1 GND, AF6 GND, AF7 GND, AF15 GND, AF17 GND, AF19 GND, AF21 GND, AF23 GND, AF25 GND, AF27 GND, AF29 GND, AF31 GND, AF37 GND, AF38 GND, AF39 GND, AF44 GND, AG4 GND, AG7 GND, AG14 GND, AG16 GND, AG18 GND, AG20 GND, AG22 GND, AG24 GND, AG26 GND, AG28 GND, AG30 GND, AG34 GND, AG38 GND, AG41 GND, AH1 GND, AH2 GND, AH5 GND, AH6 GND, AH7 GND, AH11 GND, AH17 GND, AH19 GND, AH21 GND, AH23 GND, AH25 GND, AH27 GND, AH29 GND, AH31 GND, H38 GND, H39 GND, H43 GND, H44 GND, J3 GND, J4 GND, J7 GND, J8 GND, J17 GND, J18 GND, J20 GND, J24 GND, J26 GND, J28 GND, J38 GND, J41 GND, J42 GND, K1 GND, K5 GND, K6 GND, K7 GND, K15 GND, K17 GND, K18 GND, K21 GND, K22 GND, K23 GND, K24 GND, K25 GND, K26 GND, K27 GND, K28 GND, K35 GND, K38 GND, K39 GND, K40 GND, K44 GND, L3 GND, L7 GND, L12 GND, L17 GND, L19 GND, L21 GND, L23 GND, L25 GND, L27 GND, L28 GND, L32 GND, L38 GND, L42 GND, M1 GND, M2 GND, M5 GND, M6 GND, M7 GND, M9 GND, M18 GND, M20 GND, M22 GND, M24 GND, M26 GND, M28 GND, M29 GND, M38 GND, M39 GND, M40 GND, M43 GND, M44 GND, N3 GND, N4 GND, N7 GND, N16 GND, N18 GND, N20 GND, N22 GND, N24 GND, N28 GND, N36 GND, N38 GND, N41 GND, N42 GND, P1 GND, P6 GND, P7 GND, P13 GND, P17 GND, P19 GND, P21 GND, P25 GND, P33 GND, P38 GND, P39 GND, P44 GND, R3 GND, R4 GND, R7 GND, R10 GND, R18 GND, R20 GND, R22 GND, R24 GND, R26 GND, R28 GND, R30 GND, R38 GND, R41 GND, R42 GND, T1 GND, T2 GND, T5 GND, T6 GND, T7 GND, T17 GND, T21 GND, T23 GND, T25 GND, T37 GND, T38 GND, T39 GND, T40 GND, T43 GND, T44 GND, U3 GND, U7 GND, U14 GND, U16 GND, U18 GND, U20 GND, U22 GND, U24 GND, U26 GND, U28 GND, U34 GND, U38 GND, U42 GND, V1 GND, V5 GND, V6 GND, V7 GND, V11 GND, V15 GND, V19 GND, V21 GND, V23 GND, V25 GND, V27 GND, V29 GND, V31 GND, V38 GND, V39 GND, V40 GND, V44 GND, W3 GND, W4 GND, W7 GND, W8 GND, W18 GND, W20 GND, W22 GND, W24 GND, W26 GND, W28 GND, W30 GND, W38 GND, W41 GND, W42 GND, Y1 GND, Y2 GND, Y6 GND, Y7 GND, Y15 GND, Y17 GND, Y19 GND, Y21 GND, Y23 GND, Y25 GND, Y27 GND, Y29 GND, Y31 GND, Y35 GND, Y38 GND, Y39 GND, Y43 GND, Y44 GND
part T pins: AH38 GND, AH39 GND, AH40 GND, AH43 GND, AH44 GND, AJ3 GND, AJ7 GND, AJ8 GND, AJ18 GND, AJ20 GND, AJ22 GND, AJ24 GND, AJ26 GND, AJ28 GND, AJ38 GND, AJ42 GND, AK1 GND, AK5 GND, AK6 GND, AK7 GND, AK15 GND, AK19 GND, AK21 GND, AK23 GND, AK25 GND, AK35 GND, AK38 GND, AK39 GND, AK40 GND, AK44 GND, AL3 GND, AL4 GND, AL7 GND, AL12 GND, AL20 GND, AL22 GND, AL24 GND, AL26 GND, AL32 GND, AL38 GND, AL41 GND, AL42 GND, AM1 GND, AM2 GND, AM6 GND, AM7 GND, AM9 GND, AM19 GND, AM21 GND, AM23 GND, AM25 GND, AM29 GND, AM38 GND, AM39 GND, AM43 GND, AM44 GND, AN3 GND, AN4 GND, AN7 GND, AN16 GND, AN26 GND, AN36 GND, AN38 GND, AN41 GND, AN42 GND, AP1 GND, AP5 GND, AP6 GND, AP7 GND, AP13 GND, AP23 GND, AP33 GND, AP38 GND, AP39 GND, AP40 GND, AP44 GND, AR3 GND, AR7 GND, AR10 GND, AR20 GND, AR30 GND, AR38 GND, AR42 GND, AT1 GND, AT2 GND, AT5 GND, AT6 GND, AT7 GND, AT17 GND, AT27 GND, AT37 GND, AT38 GND, AT39 GND, AT40 GND, AT43 GND, AT44 GND, AU3 GND, AU4 GND, AU7 GND, AU14 GND, AU24 GND, AU34 GND, AU38 GND, AU41 GND, AU42 GND, AV1 GND, AV6 GND, AV7 GND, AV11 GND, AV21 GND, AV31 GND, AV38 GND, AV39 GND, AV44 GND, AW3 GND, AW4 GND, AW7 GND, AW8 GND, AW18 GND, AW28 GND, AW38 GND, AW41 GND, AW42 GND, AY1 GND, AY2 GND, AY5 GND, AY6 GND, AY7 GND, AY15 GND, AY25 GND, AY35 GND, AY38 GND, AY39 GND, AY40 GND, AY43 GND, AY44 GND, BA3 GND, BA5 GND, BA12 GND, BA22 GND, BA32 GND, BA40 GND, BA42 GND, BB1 GND, BB5 GND, BB9 GND, BB19 GND, BB29 GND, BB39 GND, BB40 GND, BB44 GND, BC2 GND, BC4 GND, BC5 GND, BC6 GND, BC16 GND, BC26 GND, BC36 GND, BC40 GND, BC41 GND, BC43 GND, BD5 GND, BD13 GND, BD23 GND, BD33 GND, BD40 GND

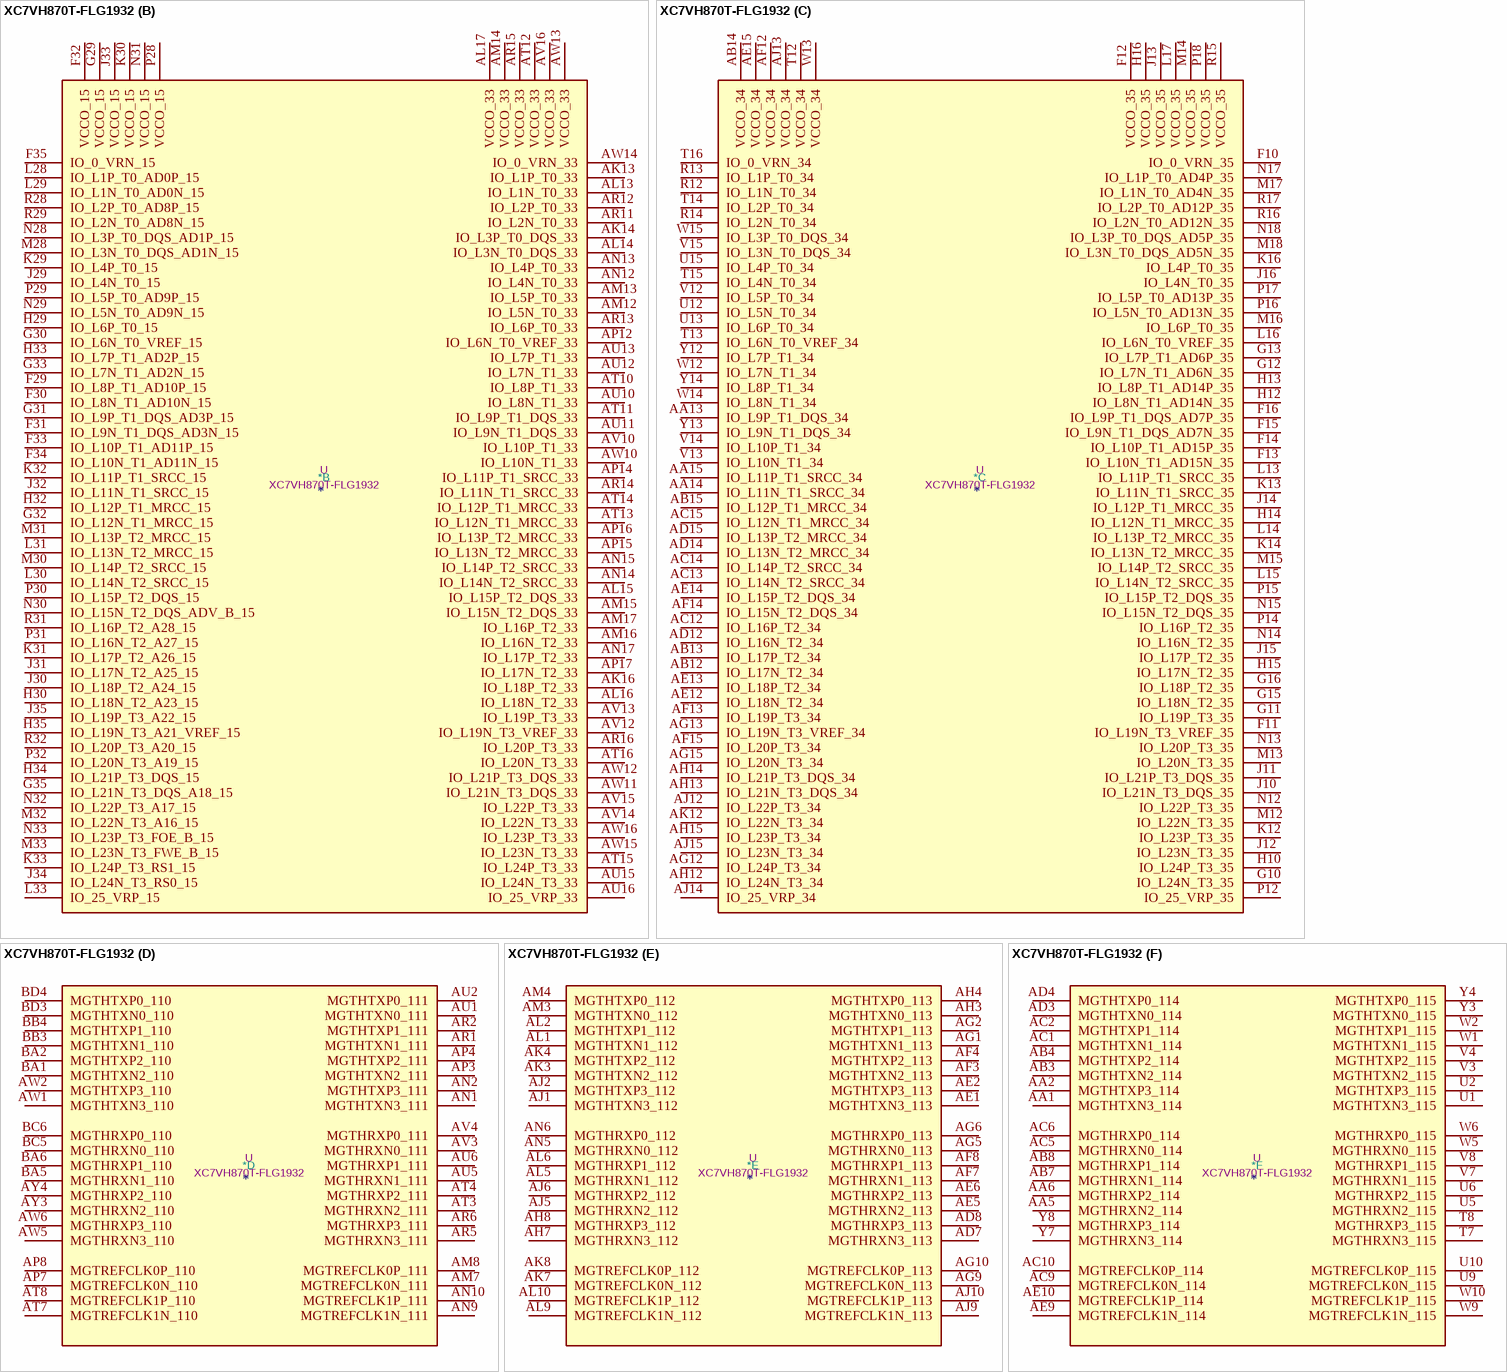
[diagram p43: symbol XC7VH870T-FLG1932]

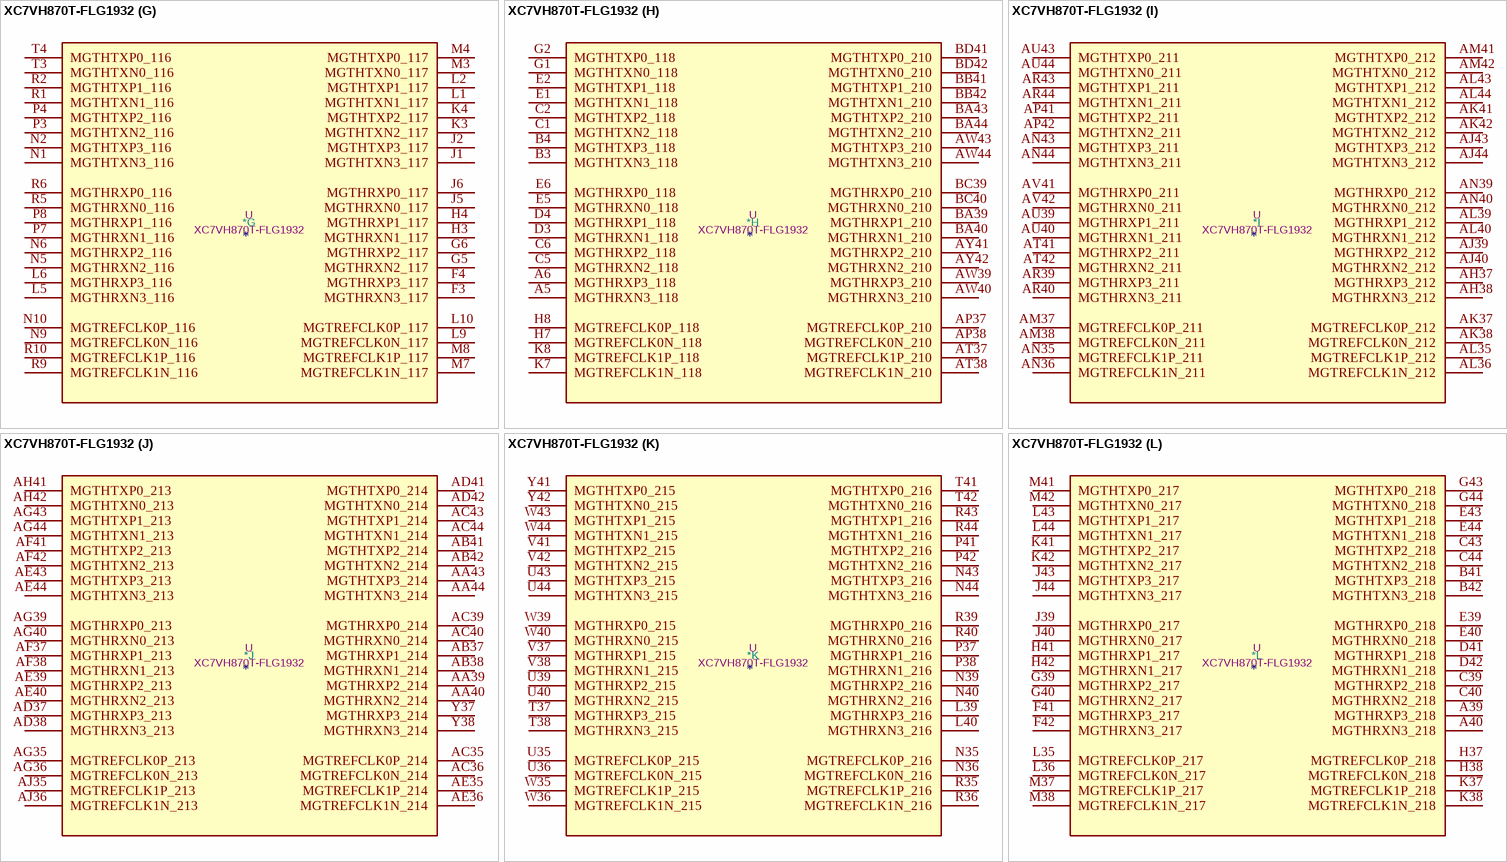
[diagram p44: symbol XC7VH870T-FLG1932]

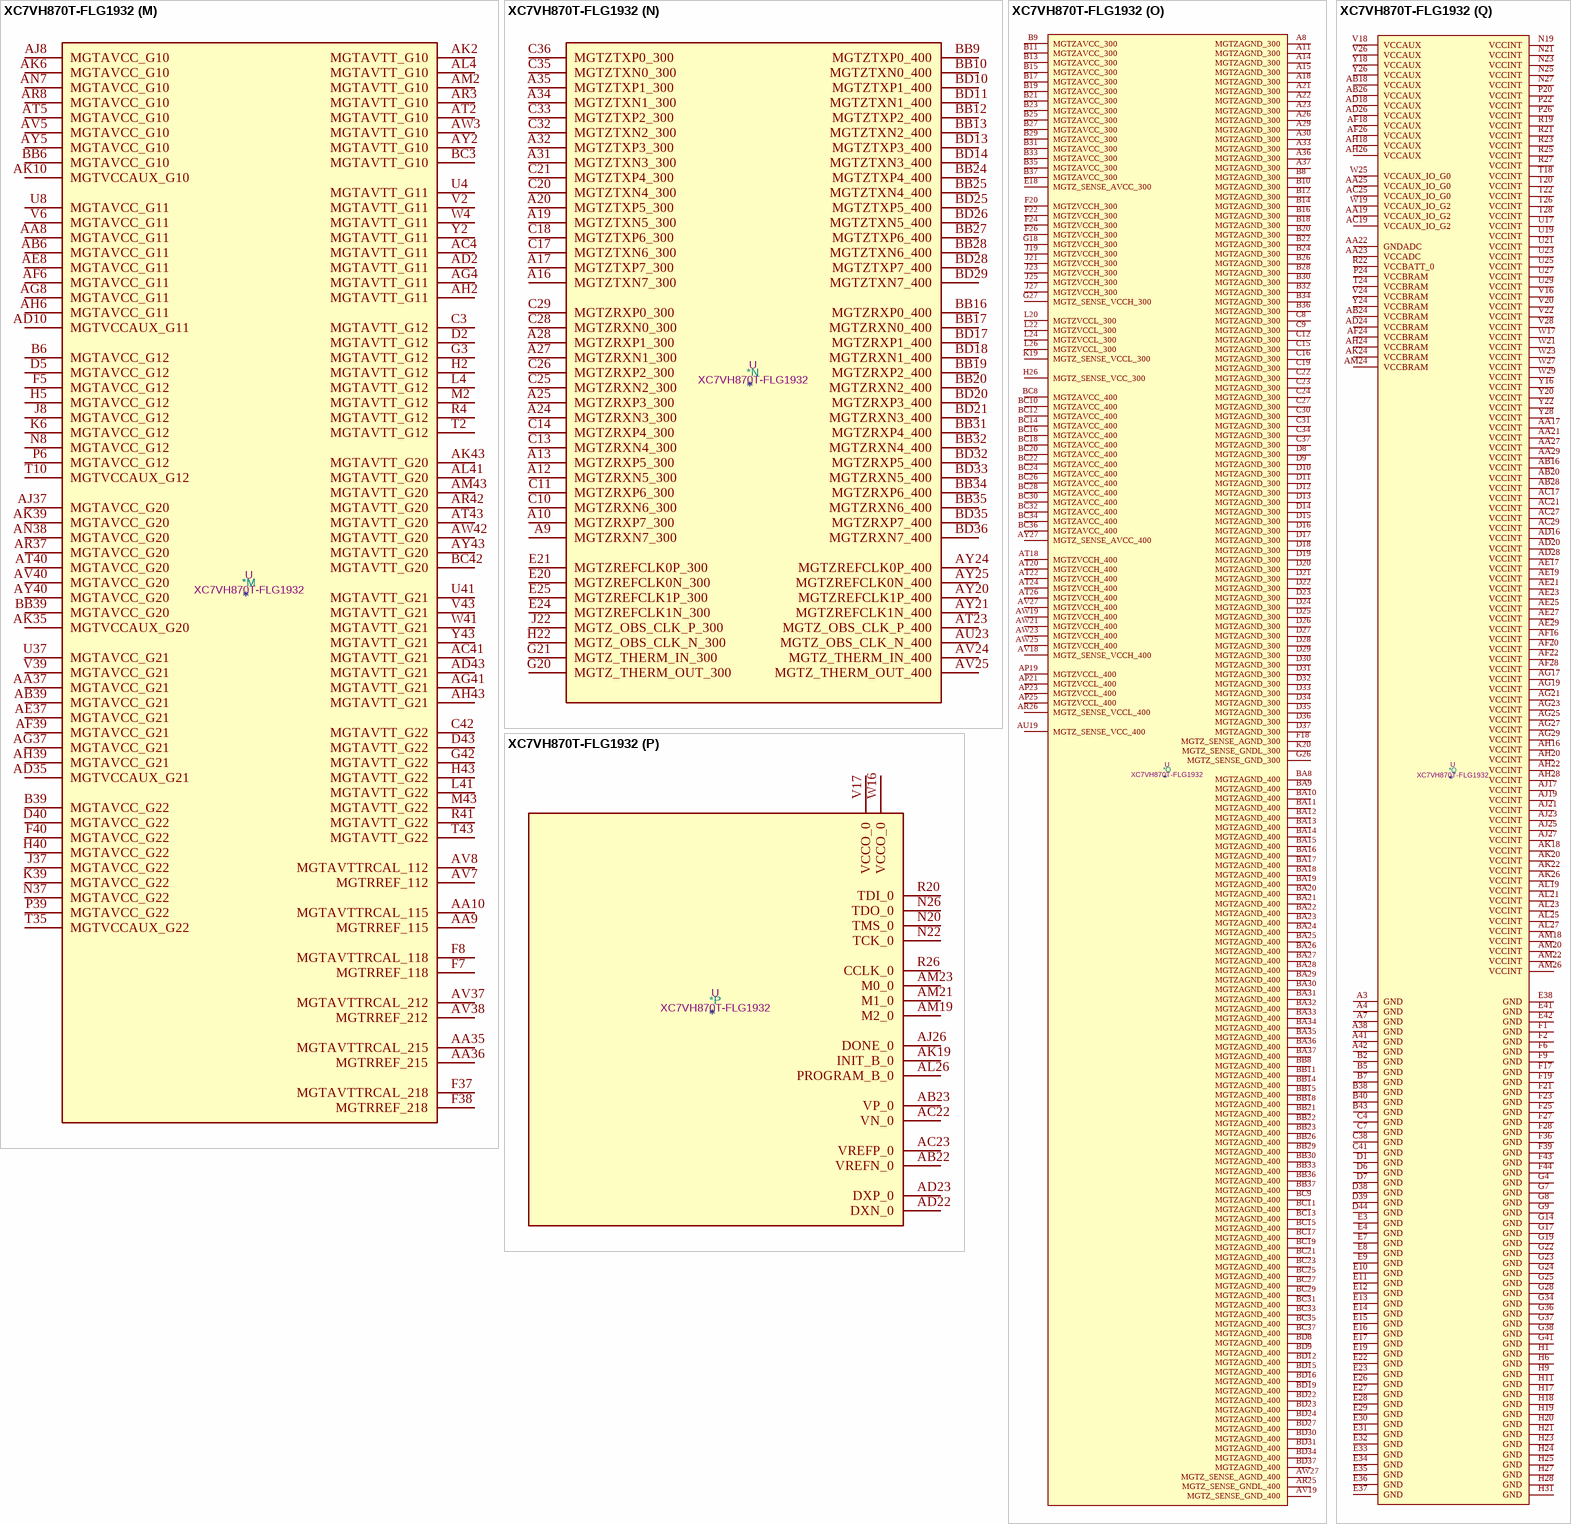
[diagram p45: symbol XC7VH870T-FLG1932]

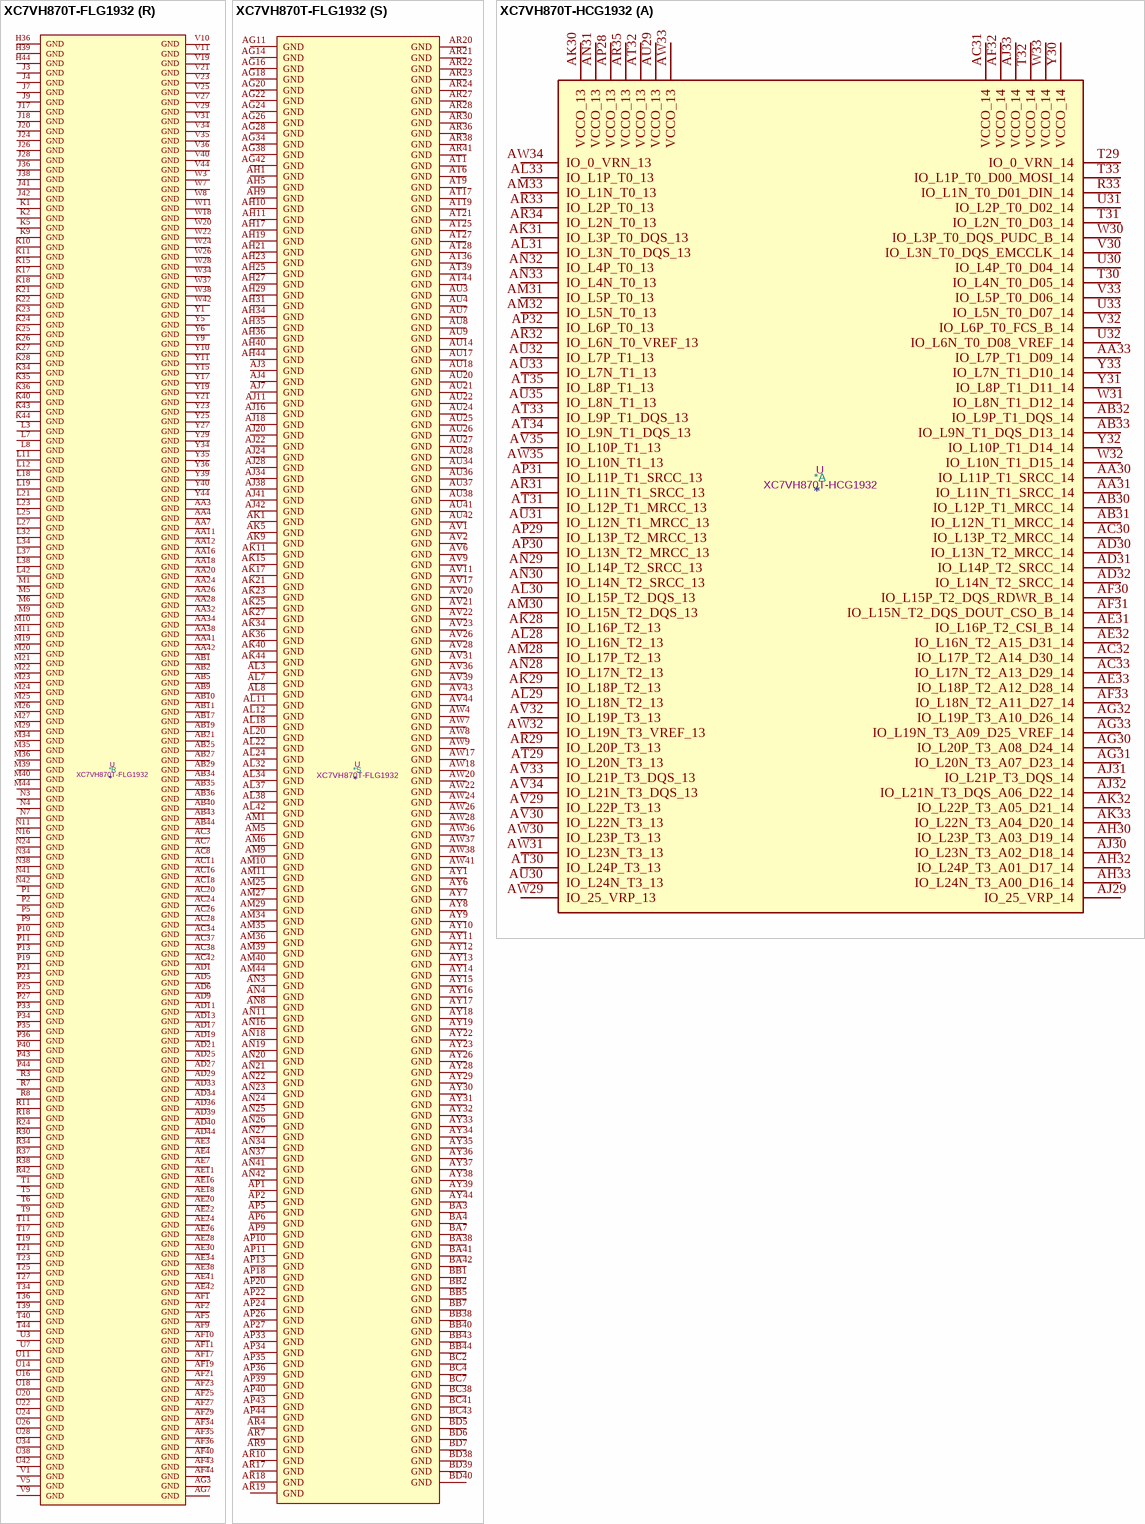
[diagram p46: symbols XC7VH870T-FLG1932 to XC7VH870T-HCG1932]